# Altium schematic symbol library adafruit.SCHLIB: 884 symbols (part 9 of 15)
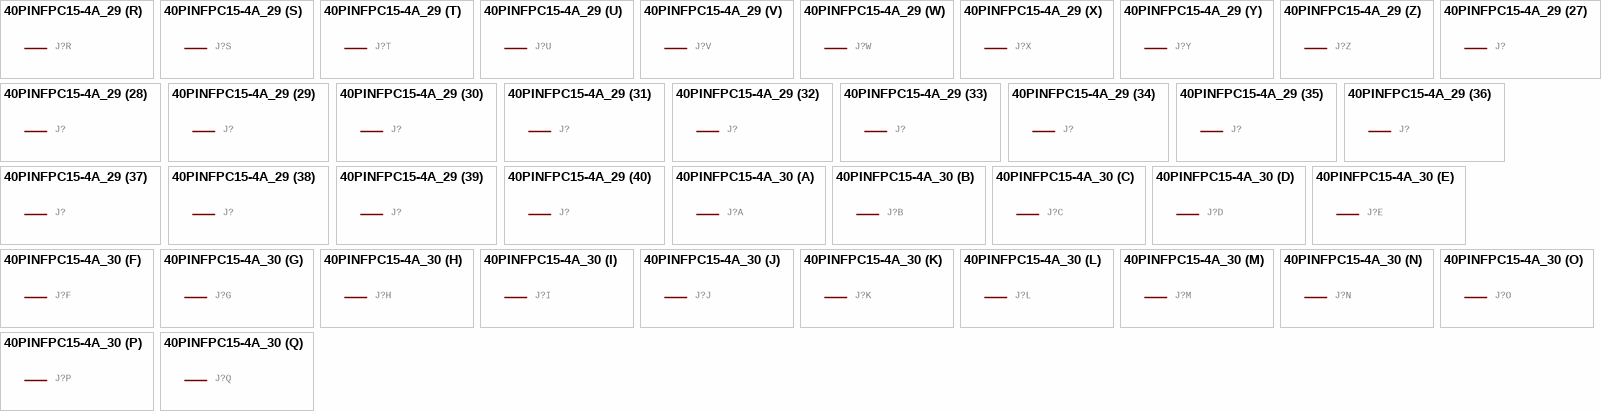
[diagram p196: symbols 40PINFPC15-4A_29 to 40PINFPC15-4A_30]

## 40PINFPC15-4A_29
designator J?, comment OMRON FPC Connector   Source : http://www.omron.com/ecb/products/pdf/fpc.pdf    XF2M-4015-rev is good for connecting up 'PSP' SHARP LQ043 LCDs  (value not drawn)
GateName_1: -1; SymbolName_1: PV; GateName_2: -2; SymbolName_2: P; GateName_3: -3; GateName_4: -4; GateName_5: -5; GateName_6: -6; GateName_7: -7; GateName_8: -8; GateName_9: -9; GateName_10: -10; GateName_11: -11; GateName_12: -12; GateName_13: -13; GateName_14: -14; GateName_15: -15; GateName_16: -16; GateName_17: -17; GateName_18: -18; GateName_19: -19; GateName_20: -20; GateName_21: -21; GateName_22: -22; GateName_23: -23; GateName_24: -24; GateName_25: -25; GateName_26: -26; GateName_27: -27; GateName_28: -28; GateName_29: -29; GateName_30: -30; GateName_31: -31; GateName_32: -32; GateName_33: -33; GateName_34: -34; GateName_35: -35; GateName_36: -36; GateName_37: -37; GateName_38: -38; GateName_39: -39; GateName_40: -40; DeviceName: 15-4A; DeviceSetName: 40PINFPC; SymbolName_3: P; SymbolName_4: P; SymbolName_5: P; SymbolName_6: P; SymbolName_7: P; SymbolName_8: P; SymbolName_9: P; SymbolName_10: P; SymbolName_11: P; SymbolName_12: P; SymbolName_13: P; SymbolName_14: P; SymbolName_15: P; SymbolName_16: P; SymbolName_17: P; SymbolName_18: P; SymbolName_19: P; SymbolName_20: P; SymbolName_21: P; SymbolName_22: P; SymbolName_23: P; SymbolName_24: P; SymbolName_25: P; SymbolName_26: P; SymbolName_27: P; SymbolName_28: P; SymbolName_29: P; SymbolName_30: P; SymbolName_31: P; SymbolName_32: P; SymbolName_33: P; SymbolName_34: P; SymbolName_35: P; SymbolName_36: P; SymbolName_37: P; SymbolName_38: P; SymbolName_39: P; SymbolName_40: P; LibraryName: adafruit; Package: XF2R-4015-4A
footprint XF2R-4015-4A
part A pins: 1 MSV
part B pins: 2 MS
part C pins: 3 MS
part D pins: 4 MS
part E pins: 5 MS
part F pins: 6 MS
part G pins: 7 MS
part H pins: 8 MS
part I pins: 9 MS
part J pins: 10 MS
part K pins: 11 MS
part L pins: 12 MS
part M pins: 13 MS
part N pins: 14 MS
part O pins: 15 MS
part P pins: 16 MS
part Q pins: 17 MS
part R pins: 18 MS
part S pins: 19 MS
part T pins: 20 MS
part U pins: 21 MS
part V pins: 22 MS
part W pins: 23 MS
part X pins: 24 MS
part Y pins: 25 MS
part Z pins: 26 MS
part 27 pins: 27 MS
part 28 pins: 28 MS
part 29 pins: 29 MS
part 30 pins: 30 MS
part 31 pins: 31 MS
part 32 pins: 32 MS
part 33 pins: 33 MS
part 34 pins: 34 MS
part 35 pins: 35 MS
part 36 pins: 36 MS
part 37 pins: 37 MS
part 38 pins: 38 MS
part 39 pins: 39 MS
part 40 pins: 40 MS

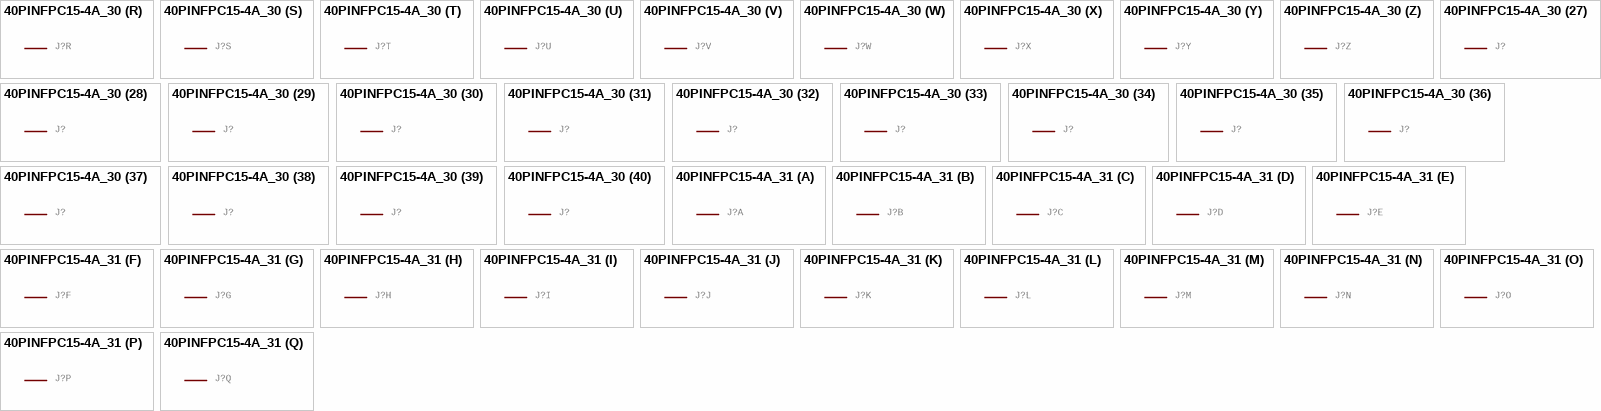
[diagram p151: symbols 40PINFPC15-4A_30 to 40PINFPC15-4A_31]

## 40PINFPC15-4A_30
designator J?, comment OMRON FPC Connector   Source : http://www.omron.com/ecb/products/pdf/fpc.pdf    XF2M-4015-rev is good for connecting up 'PSP' SHARP LQ043 LCDs  (value not drawn)
GateName_1: -1; SymbolName_1: PV; GateName_2: -2; SymbolName_2: P; GateName_3: -3; GateName_4: -4; GateName_5: -5; GateName_6: -6; GateName_7: -7; GateName_8: -8; GateName_9: -9; GateName_10: -10; GateName_11: -11; GateName_12: -12; GateName_13: -13; GateName_14: -14; GateName_15: -15; GateName_16: -16; GateName_17: -17; GateName_18: -18; GateName_19: -19; GateName_20: -20; GateName_21: -21; GateName_22: -22; GateName_23: -23; GateName_24: -24; GateName_25: -25; GateName_26: -26; GateName_27: -27; GateName_28: -28; GateName_29: -29; GateName_30: -30; GateName_31: -31; GateName_32: -32; GateName_33: -33; GateName_34: -34; GateName_35: -35; GateName_36: -36; GateName_37: -37; GateName_38: -38; GateName_39: -39; GateName_40: -40; DeviceName: 15-4A; DeviceSetName: 40PINFPC; SymbolName_3: P; SymbolName_4: P; SymbolName_5: P; SymbolName_6: P; SymbolName_7: P; SymbolName_8: P; SymbolName_9: P; SymbolName_10: P; SymbolName_11: P; SymbolName_12: P; SymbolName_13: P; SymbolName_14: P; SymbolName_15: P; SymbolName_16: P; SymbolName_17: P; SymbolName_18: P; SymbolName_19: P; SymbolName_20: P; SymbolName_21: P; SymbolName_22: P; SymbolName_23: P; SymbolName_24: P; SymbolName_25: P; SymbolName_26: P; SymbolName_27: P; SymbolName_28: P; SymbolName_29: P; SymbolName_30: P; SymbolName_31: P; SymbolName_32: P; SymbolName_33: P; SymbolName_34: P; SymbolName_35: P; SymbolName_36: P; SymbolName_37: P; SymbolName_38: P; SymbolName_39: P; SymbolName_40: P; LibraryName: adafruit; Package: XF2R-4015-4A
footprint XF2R-4015-4A
part A pins: 1 MSV
part B pins: 2 MS
part C pins: 3 MS
part D pins: 4 MS
part E pins: 5 MS
part F pins: 6 MS
part G pins: 7 MS
part H pins: 8 MS
part I pins: 9 MS
part J pins: 10 MS
part K pins: 11 MS
part L pins: 12 MS
part M pins: 13 MS
part N pins: 14 MS
part O pins: 15 MS
part P pins: 16 MS
part Q pins: 17 MS
part R pins: 18 MS
part S pins: 19 MS
part T pins: 20 MS
part U pins: 21 MS
part V pins: 22 MS
part W pins: 23 MS
part X pins: 24 MS
part Y pins: 25 MS
part Z pins: 26 MS
part 27 pins: 27 MS
part 28 pins: 28 MS
part 29 pins: 29 MS
part 30 pins: 30 MS
part 31 pins: 31 MS
part 32 pins: 32 MS
part 33 pins: 33 MS
part 34 pins: 34 MS
part 35 pins: 35 MS
part 36 pins: 36 MS
part 37 pins: 37 MS
part 38 pins: 38 MS
part 39 pins: 39 MS
part 40 pins: 40 MS

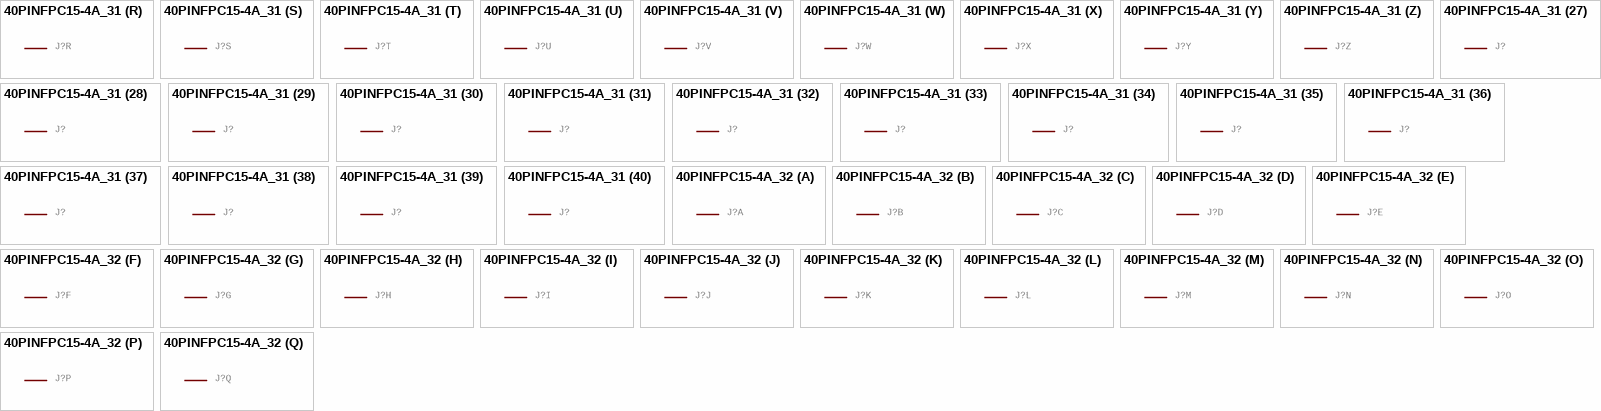
[diagram p152: symbols 40PINFPC15-4A_31 to 40PINFPC15-4A_32]

## 40PINFPC15-4A_31
designator J?, comment OMRON FPC Connector   Source : http://www.omron.com/ecb/products/pdf/fpc.pdf    XF2M-4015-rev is good for connecting up 'PSP' SHARP LQ043 LCDs  (value not drawn)
GateName_1: -1; SymbolName_1: PV; GateName_2: -2; SymbolName_2: P; GateName_3: -3; GateName_4: -4; GateName_5: -5; GateName_6: -6; GateName_7: -7; GateName_8: -8; GateName_9: -9; GateName_10: -10; GateName_11: -11; GateName_12: -12; GateName_13: -13; GateName_14: -14; GateName_15: -15; GateName_16: -16; GateName_17: -17; GateName_18: -18; GateName_19: -19; GateName_20: -20; GateName_21: -21; GateName_22: -22; GateName_23: -23; GateName_24: -24; GateName_25: -25; GateName_26: -26; GateName_27: -27; GateName_28: -28; GateName_29: -29; GateName_30: -30; GateName_31: -31; GateName_32: -32; GateName_33: -33; GateName_34: -34; GateName_35: -35; GateName_36: -36; GateName_37: -37; GateName_38: -38; GateName_39: -39; GateName_40: -40; DeviceName: 15-4A; DeviceSetName: 40PINFPC; SymbolName_3: P; SymbolName_4: P; SymbolName_5: P; SymbolName_6: P; SymbolName_7: P; SymbolName_8: P; SymbolName_9: P; SymbolName_10: P; SymbolName_11: P; SymbolName_12: P; SymbolName_13: P; SymbolName_14: P; SymbolName_15: P; SymbolName_16: P; SymbolName_17: P; SymbolName_18: P; SymbolName_19: P; SymbolName_20: P; SymbolName_21: P; SymbolName_22: P; SymbolName_23: P; SymbolName_24: P; SymbolName_25: P; SymbolName_26: P; SymbolName_27: P; SymbolName_28: P; SymbolName_29: P; SymbolName_30: P; SymbolName_31: P; SymbolName_32: P; SymbolName_33: P; SymbolName_34: P; SymbolName_35: P; SymbolName_36: P; SymbolName_37: P; SymbolName_38: P; SymbolName_39: P; SymbolName_40: P; LibraryName: adafruit; Package: XF2R-4015-4A
footprint XF2R-4015-4A
part A pins: 1 MSV
part B pins: 2 MS
part C pins: 3 MS
part D pins: 4 MS
part E pins: 5 MS
part F pins: 6 MS
part G pins: 7 MS
part H pins: 8 MS
part I pins: 9 MS
part J pins: 10 MS
part K pins: 11 MS
part L pins: 12 MS
part M pins: 13 MS
part N pins: 14 MS
part O pins: 15 MS
part P pins: 16 MS
part Q pins: 17 MS
part R pins: 18 MS
part S pins: 19 MS
part T pins: 20 MS
part U pins: 21 MS
part V pins: 22 MS
part W pins: 23 MS
part X pins: 24 MS
part Y pins: 25 MS
part Z pins: 26 MS
part 27 pins: 27 MS
part 28 pins: 28 MS
part 29 pins: 29 MS
part 30 pins: 30 MS
part 31 pins: 31 MS
part 32 pins: 32 MS
part 33 pins: 33 MS
part 34 pins: 34 MS
part 35 pins: 35 MS
part 36 pins: 36 MS
part 37 pins: 37 MS
part 38 pins: 38 MS
part 39 pins: 39 MS
part 40 pins: 40 MS

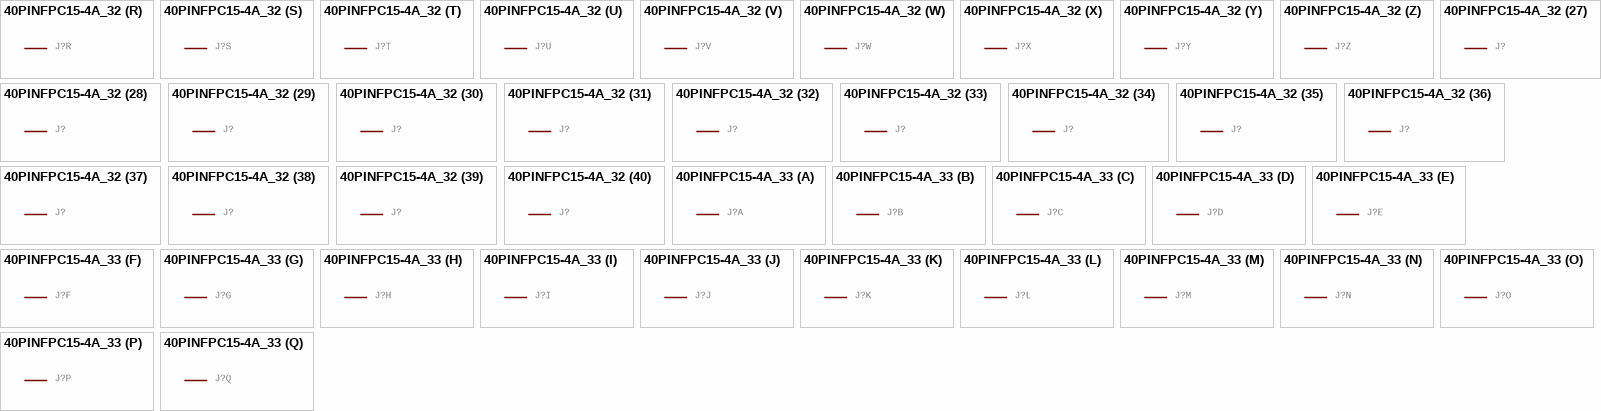
[diagram p153: symbols 40PINFPC15-4A_32 to 40PINFPC15-4A_33]

## 40PINFPC15-4A_32
designator J?, comment OMRON FPC Connector   Source : http://www.omron.com/ecb/products/pdf/fpc.pdf    XF2M-4015-rev is good for connecting up 'PSP' SHARP LQ043 LCDs  (value not drawn)
GateName_1: -1; SymbolName_1: PV; GateName_2: -2; SymbolName_2: P; GateName_3: -3; GateName_4: -4; GateName_5: -5; GateName_6: -6; GateName_7: -7; GateName_8: -8; GateName_9: -9; GateName_10: -10; GateName_11: -11; GateName_12: -12; GateName_13: -13; GateName_14: -14; GateName_15: -15; GateName_16: -16; GateName_17: -17; GateName_18: -18; GateName_19: -19; GateName_20: -20; GateName_21: -21; GateName_22: -22; GateName_23: -23; GateName_24: -24; GateName_25: -25; GateName_26: -26; GateName_27: -27; GateName_28: -28; GateName_29: -29; GateName_30: -30; GateName_31: -31; GateName_32: -32; GateName_33: -33; GateName_34: -34; GateName_35: -35; GateName_36: -36; GateName_37: -37; GateName_38: -38; GateName_39: -39; GateName_40: -40; DeviceName: 15-4A; DeviceSetName: 40PINFPC; SymbolName_3: P; SymbolName_4: P; SymbolName_5: P; SymbolName_6: P; SymbolName_7: P; SymbolName_8: P; SymbolName_9: P; SymbolName_10: P; SymbolName_11: P; SymbolName_12: P; SymbolName_13: P; SymbolName_14: P; SymbolName_15: P; SymbolName_16: P; SymbolName_17: P; SymbolName_18: P; SymbolName_19: P; SymbolName_20: P; SymbolName_21: P; SymbolName_22: P; SymbolName_23: P; SymbolName_24: P; SymbolName_25: P; SymbolName_26: P; SymbolName_27: P; SymbolName_28: P; SymbolName_29: P; SymbolName_30: P; SymbolName_31: P; SymbolName_32: P; SymbolName_33: P; SymbolName_34: P; SymbolName_35: P; SymbolName_36: P; SymbolName_37: P; SymbolName_38: P; SymbolName_39: P; SymbolName_40: P; LibraryName: adafruit; Package: XF2R-4015-4A
footprint XF2R-4015-4A
part A pins: 1 MSV
part B pins: 2 MS
part C pins: 3 MS
part D pins: 4 MS
part E pins: 5 MS
part F pins: 6 MS
part G pins: 7 MS
part H pins: 8 MS
part I pins: 9 MS
part J pins: 10 MS
part K pins: 11 MS
part L pins: 12 MS
part M pins: 13 MS
part N pins: 14 MS
part O pins: 15 MS
part P pins: 16 MS
part Q pins: 17 MS
part R pins: 18 MS
part S pins: 19 MS
part T pins: 20 MS
part U pins: 21 MS
part V pins: 22 MS
part W pins: 23 MS
part X pins: 24 MS
part Y pins: 25 MS
part Z pins: 26 MS
part 27 pins: 27 MS
part 28 pins: 28 MS
part 29 pins: 29 MS
part 30 pins: 30 MS
part 31 pins: 31 MS
part 32 pins: 32 MS
part 33 pins: 33 MS
part 34 pins: 34 MS
part 35 pins: 35 MS
part 36 pins: 36 MS
part 37 pins: 37 MS
part 38 pins: 38 MS
part 39 pins: 39 MS
part 40 pins: 40 MS

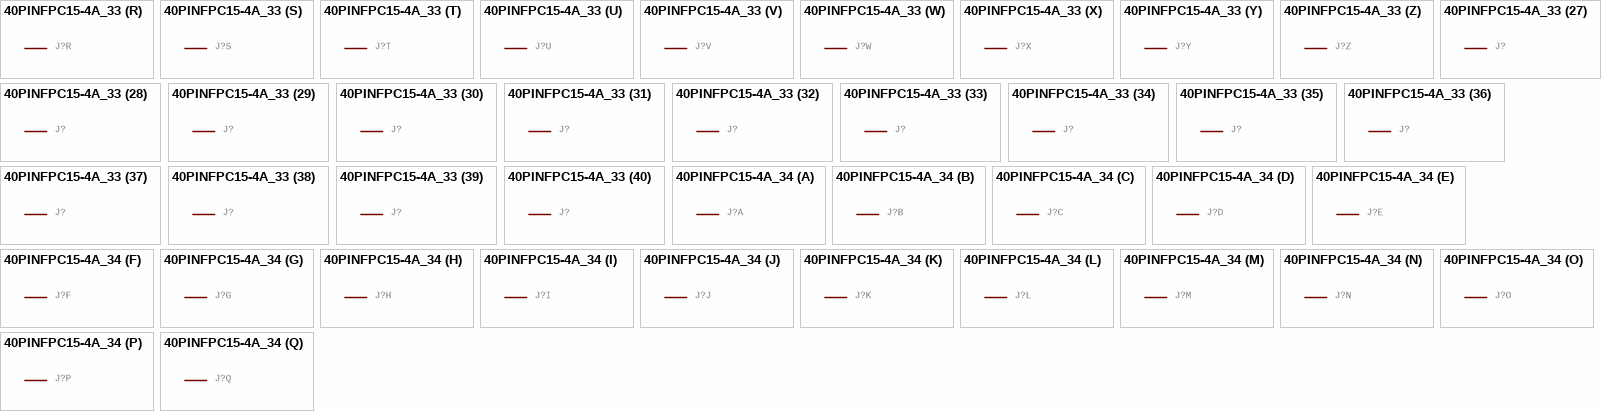
[diagram p154: symbols 40PINFPC15-4A_33 to 40PINFPC15-4A_34]

## 40PINFPC15-4A_33
designator J?, comment OMRON FPC Connector   Source : http://www.omron.com/ecb/products/pdf/fpc.pdf    XF2M-4015-rev is good for connecting up 'PSP' SHARP LQ043 LCDs  (value not drawn)
GateName_1: -1; SymbolName_1: PV; GateName_2: -2; SymbolName_2: P; GateName_3: -3; GateName_4: -4; GateName_5: -5; GateName_6: -6; GateName_7: -7; GateName_8: -8; GateName_9: -9; GateName_10: -10; GateName_11: -11; GateName_12: -12; GateName_13: -13; GateName_14: -14; GateName_15: -15; GateName_16: -16; GateName_17: -17; GateName_18: -18; GateName_19: -19; GateName_20: -20; GateName_21: -21; GateName_22: -22; GateName_23: -23; GateName_24: -24; GateName_25: -25; GateName_26: -26; GateName_27: -27; GateName_28: -28; GateName_29: -29; GateName_30: -30; GateName_31: -31; GateName_32: -32; GateName_33: -33; GateName_34: -34; GateName_35: -35; GateName_36: -36; GateName_37: -37; GateName_38: -38; GateName_39: -39; GateName_40: -40; DeviceName: 15-4A; DeviceSetName: 40PINFPC; SymbolName_3: P; SymbolName_4: P; SymbolName_5: P; SymbolName_6: P; SymbolName_7: P; SymbolName_8: P; SymbolName_9: P; SymbolName_10: P; SymbolName_11: P; SymbolName_12: P; SymbolName_13: P; SymbolName_14: P; SymbolName_15: P; SymbolName_16: P; SymbolName_17: P; SymbolName_18: P; SymbolName_19: P; SymbolName_20: P; SymbolName_21: P; SymbolName_22: P; SymbolName_23: P; SymbolName_24: P; SymbolName_25: P; SymbolName_26: P; SymbolName_27: P; SymbolName_28: P; SymbolName_29: P; SymbolName_30: P; SymbolName_31: P; SymbolName_32: P; SymbolName_33: P; SymbolName_34: P; SymbolName_35: P; SymbolName_36: P; SymbolName_37: P; SymbolName_38: P; SymbolName_39: P; SymbolName_40: P; LibraryName: adafruit; Package: XF2R-4015-4A
footprint XF2R-4015-4A
part A pins: 1 MSV
part B pins: 2 MS
part C pins: 3 MS
part D pins: 4 MS
part E pins: 5 MS
part F pins: 6 MS
part G pins: 7 MS
part H pins: 8 MS
part I pins: 9 MS
part J pins: 10 MS
part K pins: 11 MS
part L pins: 12 MS
part M pins: 13 MS
part N pins: 14 MS
part O pins: 15 MS
part P pins: 16 MS
part Q pins: 17 MS
part R pins: 18 MS
part S pins: 19 MS
part T pins: 20 MS
part U pins: 21 MS
part V pins: 22 MS
part W pins: 23 MS
part X pins: 24 MS
part Y pins: 25 MS
part Z pins: 26 MS
part 27 pins: 27 MS
part 28 pins: 28 MS
part 29 pins: 29 MS
part 30 pins: 30 MS
part 31 pins: 31 MS
part 32 pins: 32 MS
part 33 pins: 33 MS
part 34 pins: 34 MS
part 35 pins: 35 MS
part 36 pins: 36 MS
part 37 pins: 37 MS
part 38 pins: 38 MS
part 39 pins: 39 MS
part 40 pins: 40 MS

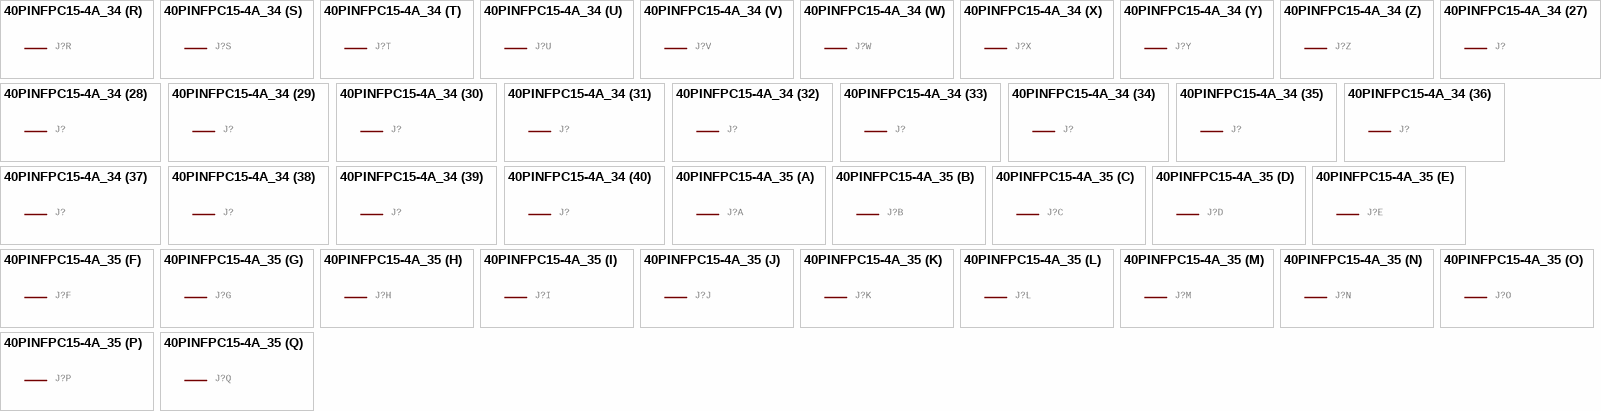
[diagram p155: symbols 40PINFPC15-4A_34 to 40PINFPC15-4A_35]

## 40PINFPC15-4A_34
designator J?, comment OMRON FPC Connector   Source : http://www.omron.com/ecb/products/pdf/fpc.pdf    XF2M-4015-rev is good for connecting up 'PSP' SHARP LQ043 LCDs  (value not drawn)
GateName_1: -1; SymbolName_1: PV; GateName_2: -2; SymbolName_2: P; GateName_3: -3; GateName_4: -4; GateName_5: -5; GateName_6: -6; GateName_7: -7; GateName_8: -8; GateName_9: -9; GateName_10: -10; GateName_11: -11; GateName_12: -12; GateName_13: -13; GateName_14: -14; GateName_15: -15; GateName_16: -16; GateName_17: -17; GateName_18: -18; GateName_19: -19; GateName_20: -20; GateName_21: -21; GateName_22: -22; GateName_23: -23; GateName_24: -24; GateName_25: -25; GateName_26: -26; GateName_27: -27; GateName_28: -28; GateName_29: -29; GateName_30: -30; GateName_31: -31; GateName_32: -32; GateName_33: -33; GateName_34: -34; GateName_35: -35; GateName_36: -36; GateName_37: -37; GateName_38: -38; GateName_39: -39; GateName_40: -40; DeviceName: 15-4A; DeviceSetName: 40PINFPC; SymbolName_3: P; SymbolName_4: P; SymbolName_5: P; SymbolName_6: P; SymbolName_7: P; SymbolName_8: P; SymbolName_9: P; SymbolName_10: P; SymbolName_11: P; SymbolName_12: P; SymbolName_13: P; SymbolName_14: P; SymbolName_15: P; SymbolName_16: P; SymbolName_17: P; SymbolName_18: P; SymbolName_19: P; SymbolName_20: P; SymbolName_21: P; SymbolName_22: P; SymbolName_23: P; SymbolName_24: P; SymbolName_25: P; SymbolName_26: P; SymbolName_27: P; SymbolName_28: P; SymbolName_29: P; SymbolName_30: P; SymbolName_31: P; SymbolName_32: P; SymbolName_33: P; SymbolName_34: P; SymbolName_35: P; SymbolName_36: P; SymbolName_37: P; SymbolName_38: P; SymbolName_39: P; SymbolName_40: P; LibraryName: adafruit; Package: XF2R-4015-4A
footprint XF2R-4015-4A
part A pins: 1 MSV
part B pins: 2 MS
part C pins: 3 MS
part D pins: 4 MS
part E pins: 5 MS
part F pins: 6 MS
part G pins: 7 MS
part H pins: 8 MS
part I pins: 9 MS
part J pins: 10 MS
part K pins: 11 MS
part L pins: 12 MS
part M pins: 13 MS
part N pins: 14 MS
part O pins: 15 MS
part P pins: 16 MS
part Q pins: 17 MS
part R pins: 18 MS
part S pins: 19 MS
part T pins: 20 MS
part U pins: 21 MS
part V pins: 22 MS
part W pins: 23 MS
part X pins: 24 MS
part Y pins: 25 MS
part Z pins: 26 MS
part 27 pins: 27 MS
part 28 pins: 28 MS
part 29 pins: 29 MS
part 30 pins: 30 MS
part 31 pins: 31 MS
part 32 pins: 32 MS
part 33 pins: 33 MS
part 34 pins: 34 MS
part 35 pins: 35 MS
part 36 pins: 36 MS
part 37 pins: 37 MS
part 38 pins: 38 MS
part 39 pins: 39 MS
part 40 pins: 40 MS

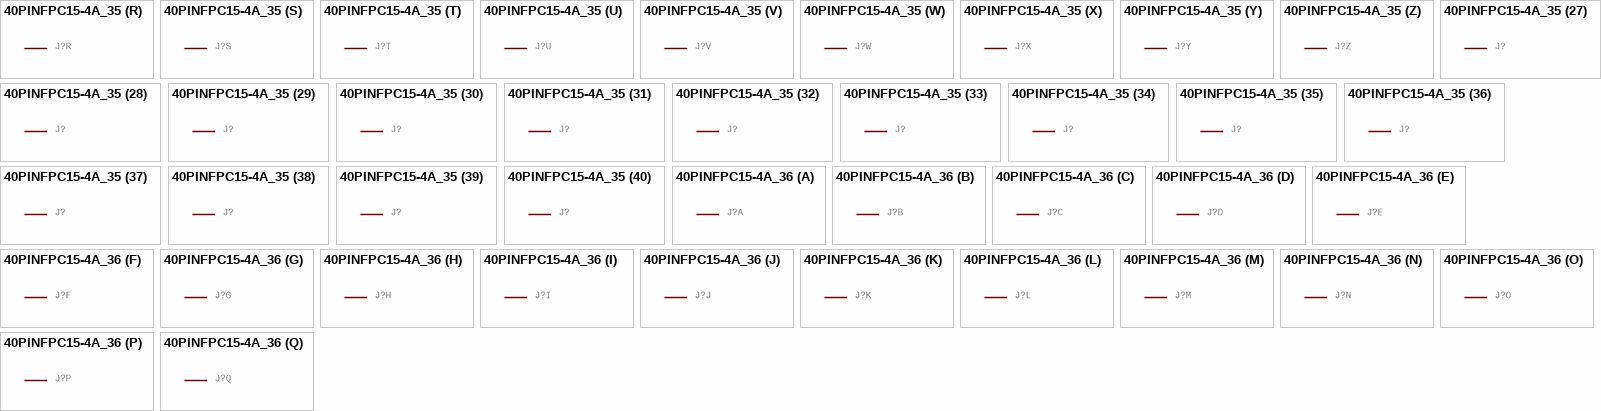
[diagram p156: symbols 40PINFPC15-4A_35 to 40PINFPC15-4A_36]

## 40PINFPC15-4A_35
designator J?, comment OMRON FPC Connector   Source : http://www.omron.com/ecb/products/pdf/fpc.pdf    XF2M-4015-rev is good for connecting up 'PSP' SHARP LQ043 LCDs  (value not drawn)
GateName_1: -1; SymbolName_1: PV; GateName_2: -2; SymbolName_2: P; GateName_3: -3; GateName_4: -4; GateName_5: -5; GateName_6: -6; GateName_7: -7; GateName_8: -8; GateName_9: -9; GateName_10: -10; GateName_11: -11; GateName_12: -12; GateName_13: -13; GateName_14: -14; GateName_15: -15; GateName_16: -16; GateName_17: -17; GateName_18: -18; GateName_19: -19; GateName_20: -20; GateName_21: -21; GateName_22: -22; GateName_23: -23; GateName_24: -24; GateName_25: -25; GateName_26: -26; GateName_27: -27; GateName_28: -28; GateName_29: -29; GateName_30: -30; GateName_31: -31; GateName_32: -32; GateName_33: -33; GateName_34: -34; GateName_35: -35; GateName_36: -36; GateName_37: -37; GateName_38: -38; GateName_39: -39; GateName_40: -40; DeviceName: 15-4A; DeviceSetName: 40PINFPC; SymbolName_3: P; SymbolName_4: P; SymbolName_5: P; SymbolName_6: P; SymbolName_7: P; SymbolName_8: P; SymbolName_9: P; SymbolName_10: P; SymbolName_11: P; SymbolName_12: P; SymbolName_13: P; SymbolName_14: P; SymbolName_15: P; SymbolName_16: P; SymbolName_17: P; SymbolName_18: P; SymbolName_19: P; SymbolName_20: P; SymbolName_21: P; SymbolName_22: P; SymbolName_23: P; SymbolName_24: P; SymbolName_25: P; SymbolName_26: P; SymbolName_27: P; SymbolName_28: P; SymbolName_29: P; SymbolName_30: P; SymbolName_31: P; SymbolName_32: P; SymbolName_33: P; SymbolName_34: P; SymbolName_35: P; SymbolName_36: P; SymbolName_37: P; SymbolName_38: P; SymbolName_39: P; SymbolName_40: P; LibraryName: adafruit; Package: XF2R-4015-4A
footprint XF2R-4015-4A
part A pins: 1 MSV
part B pins: 2 MS
part C pins: 3 MS
part D pins: 4 MS
part E pins: 5 MS
part F pins: 6 MS
part G pins: 7 MS
part H pins: 8 MS
part I pins: 9 MS
part J pins: 10 MS
part K pins: 11 MS
part L pins: 12 MS
part M pins: 13 MS
part N pins: 14 MS
part O pins: 15 MS
part P pins: 16 MS
part Q pins: 17 MS
part R pins: 18 MS
part S pins: 19 MS
part T pins: 20 MS
part U pins: 21 MS
part V pins: 22 MS
part W pins: 23 MS
part X pins: 24 MS
part Y pins: 25 MS
part Z pins: 26 MS
part 27 pins: 27 MS
part 28 pins: 28 MS
part 29 pins: 29 MS
part 30 pins: 30 MS
part 31 pins: 31 MS
part 32 pins: 32 MS
part 33 pins: 33 MS
part 34 pins: 34 MS
part 35 pins: 35 MS
part 36 pins: 36 MS
part 37 pins: 37 MS
part 38 pins: 38 MS
part 39 pins: 39 MS
part 40 pins: 40 MS

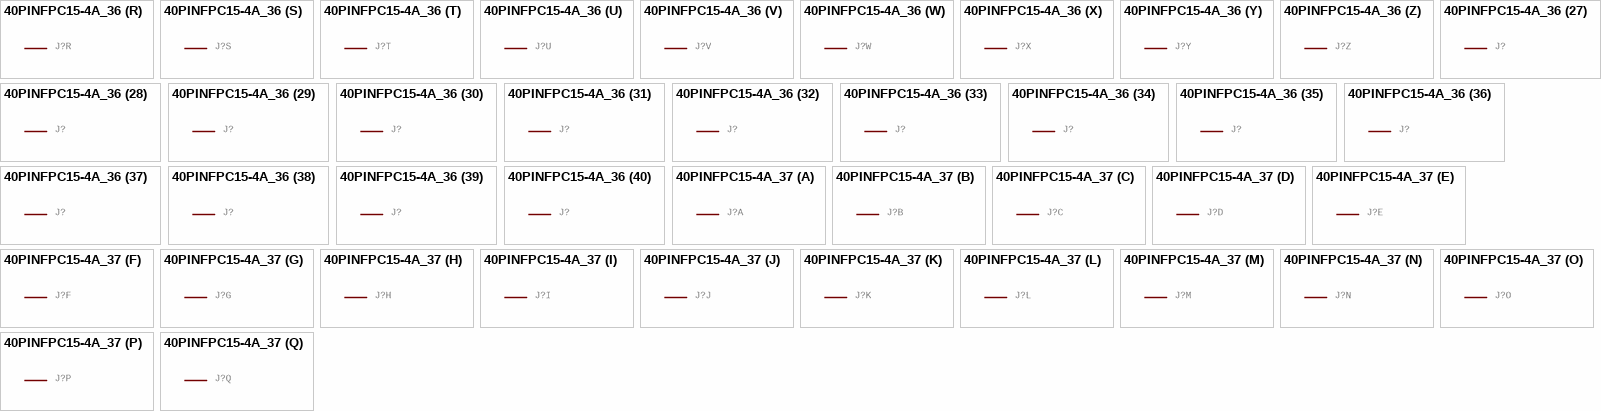
[diagram p157: symbols 40PINFPC15-4A_36 to 40PINFPC15-4A_37]

## 40PINFPC15-4A_36
designator J?, comment OMRON FPC Connector   Source : http://www.omron.com/ecb/products/pdf/fpc.pdf    XF2M-4015-rev is good for connecting up 'PSP' SHARP LQ043 LCDs  (value not drawn)
GateName_1: -1; SymbolName_1: PV; GateName_2: -2; SymbolName_2: P; GateName_3: -3; GateName_4: -4; GateName_5: -5; GateName_6: -6; GateName_7: -7; GateName_8: -8; GateName_9: -9; GateName_10: -10; GateName_11: -11; GateName_12: -12; GateName_13: -13; GateName_14: -14; GateName_15: -15; GateName_16: -16; GateName_17: -17; GateName_18: -18; GateName_19: -19; GateName_20: -20; GateName_21: -21; GateName_22: -22; GateName_23: -23; GateName_24: -24; GateName_25: -25; GateName_26: -26; GateName_27: -27; GateName_28: -28; GateName_29: -29; GateName_30: -30; GateName_31: -31; GateName_32: -32; GateName_33: -33; GateName_34: -34; GateName_35: -35; GateName_36: -36; GateName_37: -37; GateName_38: -38; GateName_39: -39; GateName_40: -40; DeviceName: 15-4A; DeviceSetName: 40PINFPC; SymbolName_3: P; SymbolName_4: P; SymbolName_5: P; SymbolName_6: P; SymbolName_7: P; SymbolName_8: P; SymbolName_9: P; SymbolName_10: P; SymbolName_11: P; SymbolName_12: P; SymbolName_13: P; SymbolName_14: P; SymbolName_15: P; SymbolName_16: P; SymbolName_17: P; SymbolName_18: P; SymbolName_19: P; SymbolName_20: P; SymbolName_21: P; SymbolName_22: P; SymbolName_23: P; SymbolName_24: P; SymbolName_25: P; SymbolName_26: P; SymbolName_27: P; SymbolName_28: P; SymbolName_29: P; SymbolName_30: P; SymbolName_31: P; SymbolName_32: P; SymbolName_33: P; SymbolName_34: P; SymbolName_35: P; SymbolName_36: P; SymbolName_37: P; SymbolName_38: P; SymbolName_39: P; SymbolName_40: P; LibraryName: adafruit; Package: XF2R-4015-4A
footprint XF2R-4015-4A
part A pins: 1 MSV
part B pins: 2 MS
part C pins: 3 MS
part D pins: 4 MS
part E pins: 5 MS
part F pins: 6 MS
part G pins: 7 MS
part H pins: 8 MS
part I pins: 9 MS
part J pins: 10 MS
part K pins: 11 MS
part L pins: 12 MS
part M pins: 13 MS
part N pins: 14 MS
part O pins: 15 MS
part P pins: 16 MS
part Q pins: 17 MS
part R pins: 18 MS
part S pins: 19 MS
part T pins: 20 MS
part U pins: 21 MS
part V pins: 22 MS
part W pins: 23 MS
part X pins: 24 MS
part Y pins: 25 MS
part Z pins: 26 MS
part 27 pins: 27 MS
part 28 pins: 28 MS
part 29 pins: 29 MS
part 30 pins: 30 MS
part 31 pins: 31 MS
part 32 pins: 32 MS
part 33 pins: 33 MS
part 34 pins: 34 MS
part 35 pins: 35 MS
part 36 pins: 36 MS
part 37 pins: 37 MS
part 38 pins: 38 MS
part 39 pins: 39 MS
part 40 pins: 40 MS

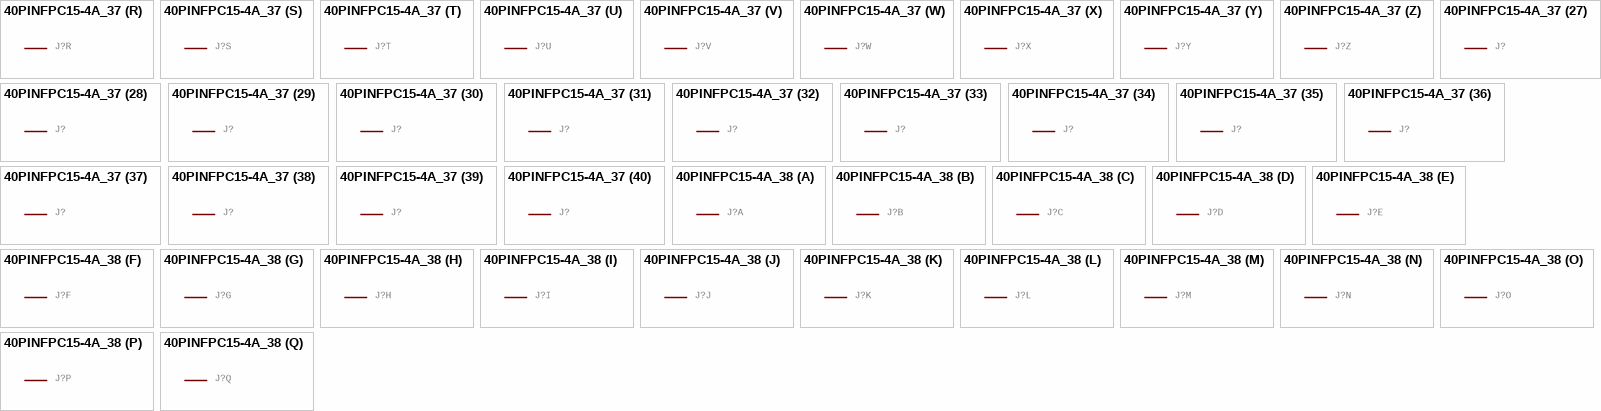
[diagram p158: symbols 40PINFPC15-4A_37 to 40PINFPC15-4A_38]

## 40PINFPC15-4A_37
designator J?, comment OMRON FPC Connector   Source : http://www.omron.com/ecb/products/pdf/fpc.pdf    XF2M-4015-rev is good for connecting up 'PSP' SHARP LQ043 LCDs  (value not drawn)
GateName_1: -1; SymbolName_1: PV; GateName_2: -2; SymbolName_2: P; GateName_3: -3; GateName_4: -4; GateName_5: -5; GateName_6: -6; GateName_7: -7; GateName_8: -8; GateName_9: -9; GateName_10: -10; GateName_11: -11; GateName_12: -12; GateName_13: -13; GateName_14: -14; GateName_15: -15; GateName_16: -16; GateName_17: -17; GateName_18: -18; GateName_19: -19; GateName_20: -20; GateName_21: -21; GateName_22: -22; GateName_23: -23; GateName_24: -24; GateName_25: -25; GateName_26: -26; GateName_27: -27; GateName_28: -28; GateName_29: -29; GateName_30: -30; GateName_31: -31; GateName_32: -32; GateName_33: -33; GateName_34: -34; GateName_35: -35; GateName_36: -36; GateName_37: -37; GateName_38: -38; GateName_39: -39; GateName_40: -40; DeviceName: 15-4A; DeviceSetName: 40PINFPC; SymbolName_3: P; SymbolName_4: P; SymbolName_5: P; SymbolName_6: P; SymbolName_7: P; SymbolName_8: P; SymbolName_9: P; SymbolName_10: P; SymbolName_11: P; SymbolName_12: P; SymbolName_13: P; SymbolName_14: P; SymbolName_15: P; SymbolName_16: P; SymbolName_17: P; SymbolName_18: P; SymbolName_19: P; SymbolName_20: P; SymbolName_21: P; SymbolName_22: P; SymbolName_23: P; SymbolName_24: P; SymbolName_25: P; SymbolName_26: P; SymbolName_27: P; SymbolName_28: P; SymbolName_29: P; SymbolName_30: P; SymbolName_31: P; SymbolName_32: P; SymbolName_33: P; SymbolName_34: P; SymbolName_35: P; SymbolName_36: P; SymbolName_37: P; SymbolName_38: P; SymbolName_39: P; SymbolName_40: P; LibraryName: adafruit; Package: XF2R-4015-4A
footprint XF2R-4015-4A
part A pins: 1 MSV
part B pins: 2 MS
part C pins: 3 MS
part D pins: 4 MS
part E pins: 5 MS
part F pins: 6 MS
part G pins: 7 MS
part H pins: 8 MS
part I pins: 9 MS
part J pins: 10 MS
part K pins: 11 MS
part L pins: 12 MS
part M pins: 13 MS
part N pins: 14 MS
part O pins: 15 MS
part P pins: 16 MS
part Q pins: 17 MS
part R pins: 18 MS
part S pins: 19 MS
part T pins: 20 MS
part U pins: 21 MS
part V pins: 22 MS
part W pins: 23 MS
part X pins: 24 MS
part Y pins: 25 MS
part Z pins: 26 MS
part 27 pins: 27 MS
part 28 pins: 28 MS
part 29 pins: 29 MS
part 30 pins: 30 MS
part 31 pins: 31 MS
part 32 pins: 32 MS
part 33 pins: 33 MS
part 34 pins: 34 MS
part 35 pins: 35 MS
part 36 pins: 36 MS
part 37 pins: 37 MS
part 38 pins: 38 MS
part 39 pins: 39 MS
part 40 pins: 40 MS

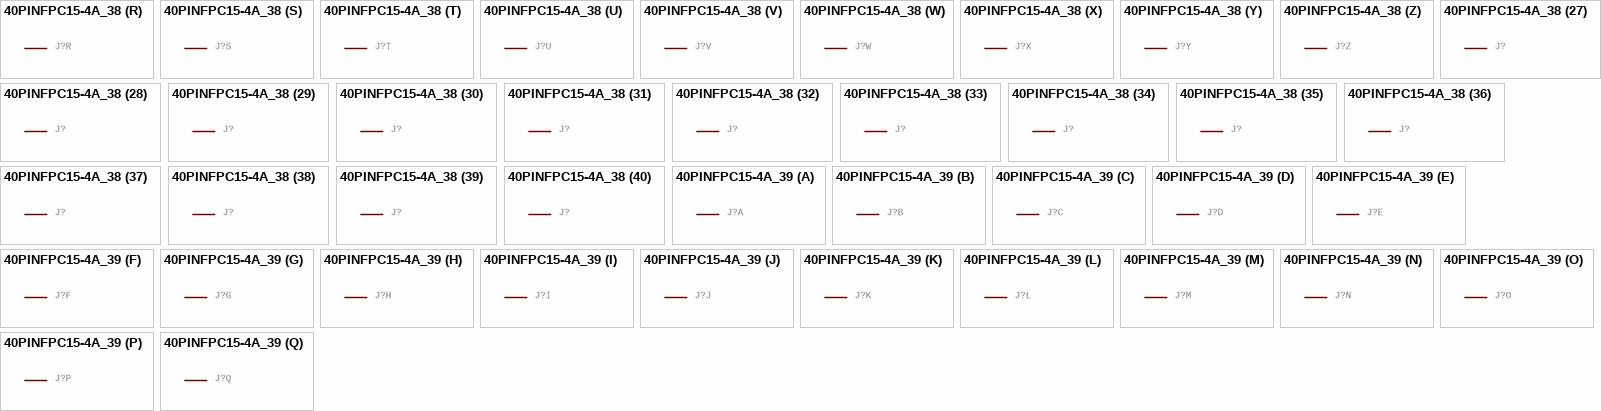
[diagram p159: symbols 40PINFPC15-4A_38 to 40PINFPC15-4A_39]

## 40PINFPC15-4A_38
designator J?, comment OMRON FPC Connector   Source : http://www.omron.com/ecb/products/pdf/fpc.pdf    XF2M-4015-rev is good for connecting up 'PSP' SHARP LQ043 LCDs  (value not drawn)
GateName_1: -1; SymbolName_1: PV; GateName_2: -2; SymbolName_2: P; GateName_3: -3; GateName_4: -4; GateName_5: -5; GateName_6: -6; GateName_7: -7; GateName_8: -8; GateName_9: -9; GateName_10: -10; GateName_11: -11; GateName_12: -12; GateName_13: -13; GateName_14: -14; GateName_15: -15; GateName_16: -16; GateName_17: -17; GateName_18: -18; GateName_19: -19; GateName_20: -20; GateName_21: -21; GateName_22: -22; GateName_23: -23; GateName_24: -24; GateName_25: -25; GateName_26: -26; GateName_27: -27; GateName_28: -28; GateName_29: -29; GateName_30: -30; GateName_31: -31; GateName_32: -32; GateName_33: -33; GateName_34: -34; GateName_35: -35; GateName_36: -36; GateName_37: -37; GateName_38: -38; GateName_39: -39; GateName_40: -40; DeviceName: 15-4A; DeviceSetName: 40PINFPC; SymbolName_3: P; SymbolName_4: P; SymbolName_5: P; SymbolName_6: P; SymbolName_7: P; SymbolName_8: P; SymbolName_9: P; SymbolName_10: P; SymbolName_11: P; SymbolName_12: P; SymbolName_13: P; SymbolName_14: P; SymbolName_15: P; SymbolName_16: P; SymbolName_17: P; SymbolName_18: P; SymbolName_19: P; SymbolName_20: P; SymbolName_21: P; SymbolName_22: P; SymbolName_23: P; SymbolName_24: P; SymbolName_25: P; SymbolName_26: P; SymbolName_27: P; SymbolName_28: P; SymbolName_29: P; SymbolName_30: P; SymbolName_31: P; SymbolName_32: P; SymbolName_33: P; SymbolName_34: P; SymbolName_35: P; SymbolName_36: P; SymbolName_37: P; SymbolName_38: P; SymbolName_39: P; SymbolName_40: P; LibraryName: adafruit; Package: XF2R-4015-4A
footprint XF2R-4015-4A
part A pins: 1 MSV
part B pins: 2 MS
part C pins: 3 MS
part D pins: 4 MS
part E pins: 5 MS
part F pins: 6 MS
part G pins: 7 MS
part H pins: 8 MS
part I pins: 9 MS
part J pins: 10 MS
part K pins: 11 MS
part L pins: 12 MS
part M pins: 13 MS
part N pins: 14 MS
part O pins: 15 MS
part P pins: 16 MS
part Q pins: 17 MS
part R pins: 18 MS
part S pins: 19 MS
part T pins: 20 MS
part U pins: 21 MS
part V pins: 22 MS
part W pins: 23 MS
part X pins: 24 MS
part Y pins: 25 MS
part Z pins: 26 MS
part 27 pins: 27 MS
part 28 pins: 28 MS
part 29 pins: 29 MS
part 30 pins: 30 MS
part 31 pins: 31 MS
part 32 pins: 32 MS
part 33 pins: 33 MS
part 34 pins: 34 MS
part 35 pins: 35 MS
part 36 pins: 36 MS
part 37 pins: 37 MS
part 38 pins: 38 MS
part 39 pins: 39 MS
part 40 pins: 40 MS

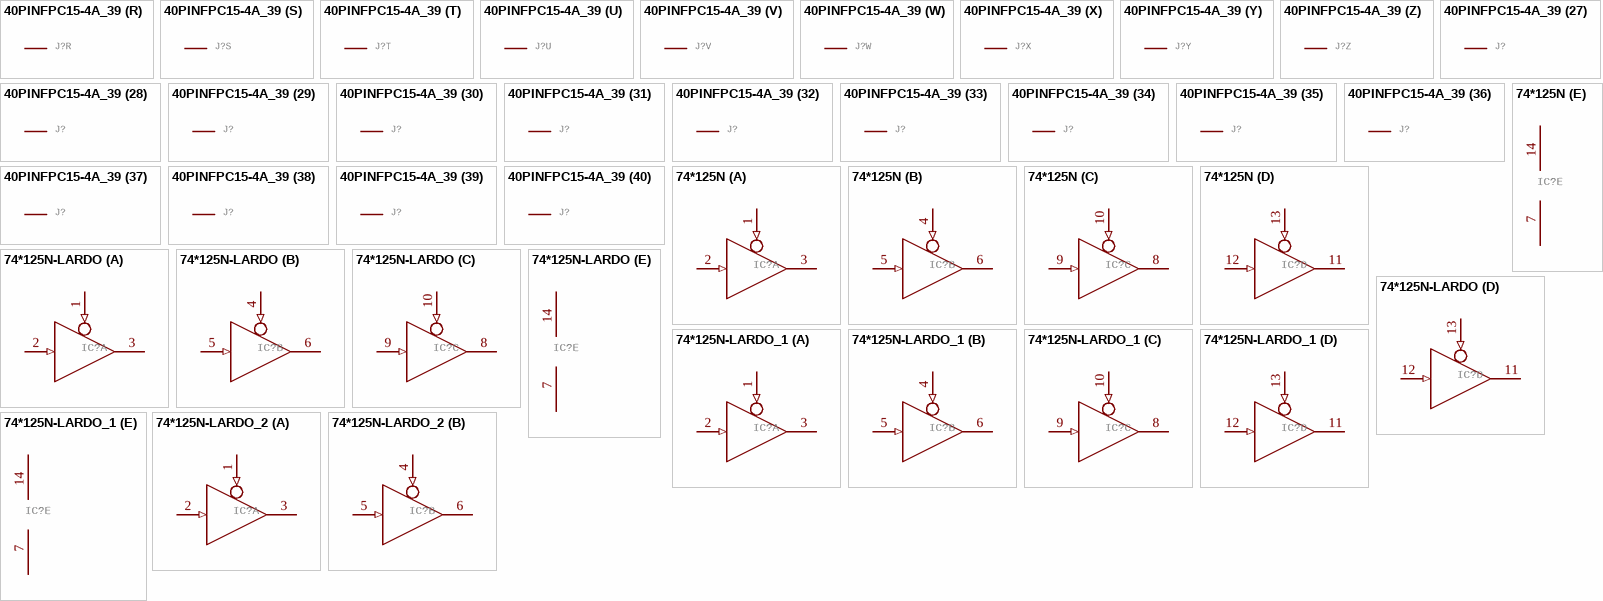
[diagram p160: symbols 40PINFPC15-4A_39 to 74*125N-LARDO_2]

## 40PINFPC15-4A_39
designator J?, comment OMRON FPC Connector   Source : http://www.omron.com/ecb/products/pdf/fpc.pdf    XF2M-4015-rev is good for connecting up 'PSP' SHARP LQ043 LCDs  (value not drawn)
GateName_1: -1; SymbolName_1: PV; GateName_2: -2; SymbolName_2: P; GateName_3: -3; GateName_4: -4; GateName_5: -5; GateName_6: -6; GateName_7: -7; GateName_8: -8; GateName_9: -9; GateName_10: -10; GateName_11: -11; GateName_12: -12; GateName_13: -13; GateName_14: -14; GateName_15: -15; GateName_16: -16; GateName_17: -17; GateName_18: -18; GateName_19: -19; GateName_20: -20; GateName_21: -21; GateName_22: -22; GateName_23: -23; GateName_24: -24; GateName_25: -25; GateName_26: -26; GateName_27: -27; GateName_28: -28; GateName_29: -29; GateName_30: -30; GateName_31: -31; GateName_32: -32; GateName_33: -33; GateName_34: -34; GateName_35: -35; GateName_36: -36; GateName_37: -37; GateName_38: -38; GateName_39: -39; GateName_40: -40; DeviceName: 15-4A; DeviceSetName: 40PINFPC; SymbolName_3: P; SymbolName_4: P; SymbolName_5: P; SymbolName_6: P; SymbolName_7: P; SymbolName_8: P; SymbolName_9: P; SymbolName_10: P; SymbolName_11: P; SymbolName_12: P; SymbolName_13: P; SymbolName_14: P; SymbolName_15: P; SymbolName_16: P; SymbolName_17: P; SymbolName_18: P; SymbolName_19: P; SymbolName_20: P; SymbolName_21: P; SymbolName_22: P; SymbolName_23: P; SymbolName_24: P; SymbolName_25: P; SymbolName_26: P; SymbolName_27: P; SymbolName_28: P; SymbolName_29: P; SymbolName_30: P; SymbolName_31: P; SymbolName_32: P; SymbolName_33: P; SymbolName_34: P; SymbolName_35: P; SymbolName_36: P; SymbolName_37: P; SymbolName_38: P; SymbolName_39: P; SymbolName_40: P; LibraryName: adafruit; Package: XF2R-4015-4A
footprint XF2R-4015-4A
part A pins: 1 MSV
part B pins: 2 MS
part C pins: 3 MS
part D pins: 4 MS
part E pins: 5 MS
part F pins: 6 MS
part G pins: 7 MS
part H pins: 8 MS
part I pins: 9 MS
part J pins: 10 MS
part K pins: 11 MS
part L pins: 12 MS
part M pins: 13 MS
part N pins: 14 MS
part O pins: 15 MS
part P pins: 16 MS
part Q pins: 17 MS
part R pins: 18 MS
part S pins: 19 MS
part T pins: 20 MS
part U pins: 21 MS
part V pins: 22 MS
part W pins: 23 MS
part X pins: 24 MS
part Y pins: 25 MS
part Z pins: 26 MS
part 27 pins: 27 MS
part 28 pins: 28 MS
part 29 pins: 29 MS
part 30 pins: 30 MS
part 31 pins: 31 MS
part 32 pins: 32 MS
part 33 pins: 33 MS
part 34 pins: 34 MS
part 35 pins: 35 MS
part 36 pins: 36 MS
part 37 pins: 37 MS
part 38 pins: 38 MS
part 39 pins: 39 MS
part 40 pins: 40 MS

## 74*125N
designator IC?, comment Quad bus BUFFER, 3-state  (value not drawn)
GateName_1: A; SymbolName_1: 74125; GateName_2: B; GateName_3: C; GateName_4: D; GateName_5: P; SymbolName_5: PWRN; DeviceName: N; DeviceSetName: 74*125; SymbolName_2: 74125; SymbolName_3: 74125; SymbolName_4: 74125; LibraryName: adafruit; Package: DIL14
footprint DIL14
part A pins: 1 OE (in), 2 I (in), 3 O (hiz)
part B pins: 4 OE (in), 5 I (in), 6 O (hiz)
part C pins: 8 O (hiz), 9 I (in), 10 OE (in)
part D pins: 11 O (hiz), 12 I (in), 13 OE (in)
part E pins: 7 GND (power), 14 VCC (power)

## 74*125N-LARDO
designator IC?, comment Quad bus BUFFER, 3-state  (value not drawn)
GateName_1: A; SymbolName_1: 74125; GateName_2: B; GateName_3: C; GateName_4: D; GateName_5: P; SymbolName_5: PWRN; DeviceName: N-LARDO; DeviceSetName: 74*125; SymbolName_2: 74125; SymbolName_3: 74125; SymbolName_4: 74125; LibraryName: adafruit; Package: DIL14-LARDO
footprint DIL14-LARDO
part A pins: 1 OE (in), 2 I (in), 3 O (hiz)
part B pins: 4 OE (in), 5 I (in), 6 O (hiz)
part C pins: 8 O (hiz), 9 I (in), 10 OE (in)
part D pins: 11 O (hiz), 12 I (in), 13 OE (in)
part E pins: 7 GND (power), 14 VCC (power)

## 74*125N-LARDO_1
designator IC?, comment Quad bus BUFFER, 3-state  (value not drawn)
GateName_1: A; SymbolName_1: 74125; GateName_2: B; GateName_3: C; GateName_4: D; GateName_5: P; SymbolName_5: PWRN; DeviceName: N-LARDO; DeviceSetName: 74*125; SymbolName_2: 74125; SymbolName_3: 74125; SymbolName_4: 74125; LibraryName: adafruit; Package: DIL14-LARDO
footprint DIL14-LARDO
part A pins: 1 OE (in), 2 I (in), 3 O (hiz)
part B pins: 4 OE (in), 5 I (in), 6 O (hiz)
part C pins: 8 O (hiz), 9 I (in), 10 OE (in)
part D pins: 11 O (hiz), 12 I (in), 13 OE (in)
part E pins: 7 GND (power), 14 VCC (power)

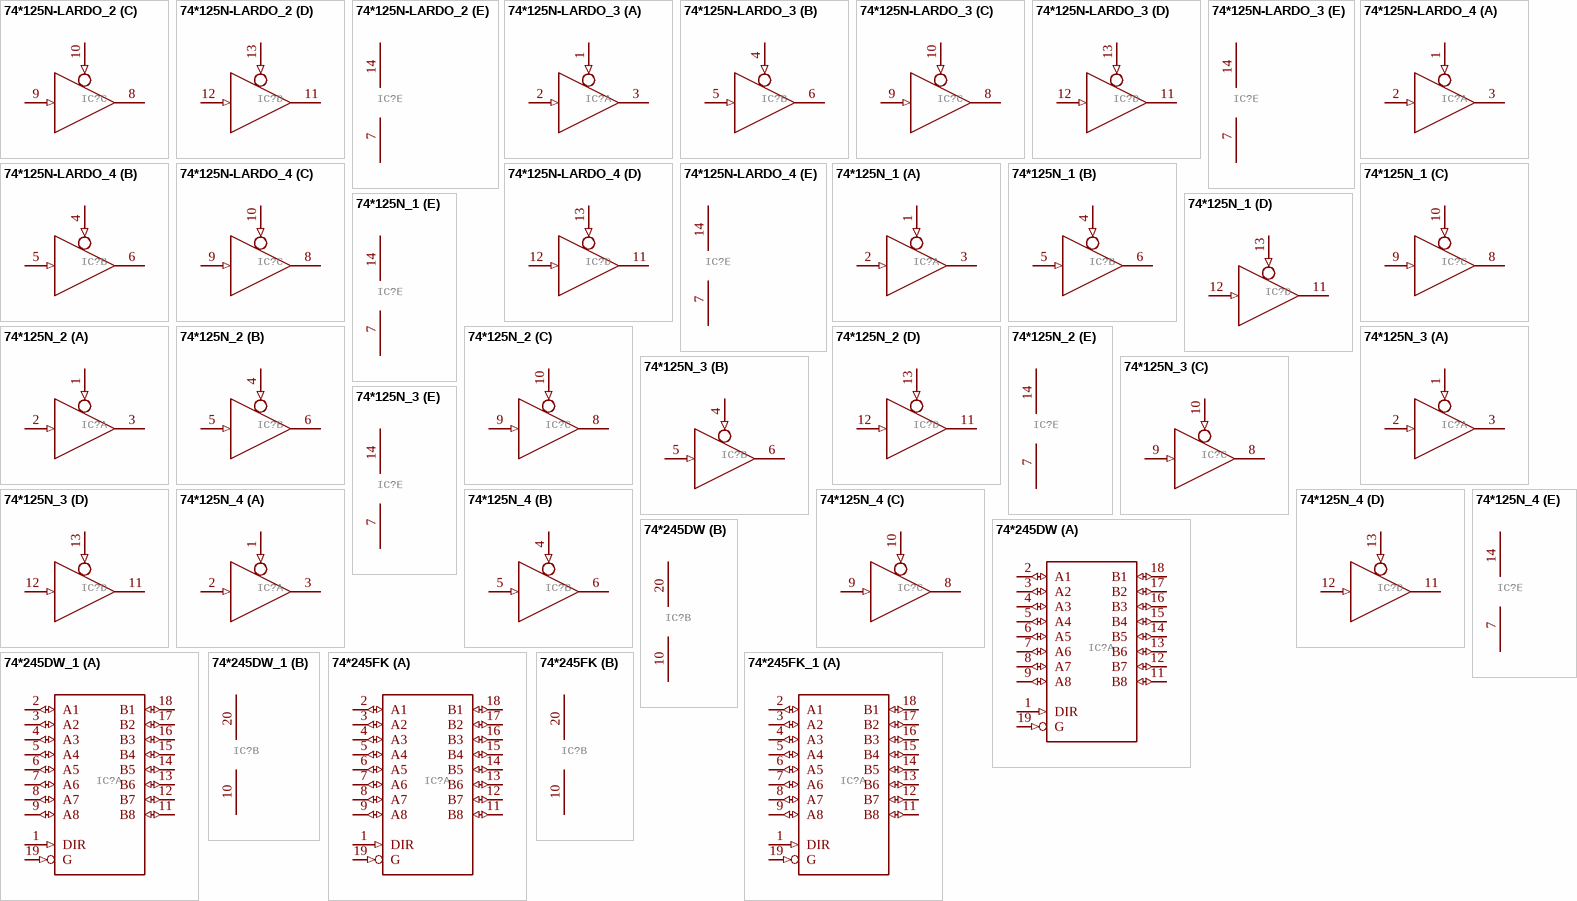
[diagram p161: symbols 74*125N-LARDO_2 to 74*245FK_1]

## 74*125N-LARDO_2
designator IC?, comment Quad bus BUFFER, 3-state  (value not drawn)
GateName_1: A; SymbolName_1: 74125; GateName_2: B; GateName_3: C; GateName_4: D; GateName_5: P; SymbolName_5: PWRN; DeviceName: N-LARDO; DeviceSetName: 74*125; SymbolName_2: 74125; SymbolName_3: 74125; SymbolName_4: 74125; LibraryName: adafruit; Package: DIL14-LARDO
footprint DIL14-LARDO
part A pins: 1 OE (in), 2 I (in), 3 O (hiz)
part B pins: 4 OE (in), 5 I (in), 6 O (hiz)
part C pins: 8 O (hiz), 9 I (in), 10 OE (in)
part D pins: 11 O (hiz), 12 I (in), 13 OE (in)
part E pins: 7 GND (power), 14 VCC (power)

## 74*125N-LARDO_3
designator IC?, comment Quad bus BUFFER, 3-state  (value not drawn)
GateName_1: A; SymbolName_1: 74125; GateName_2: B; GateName_3: C; GateName_4: D; GateName_5: P; SymbolName_5: PWRN; DeviceName: N-LARDO; DeviceSetName: 74*125; SymbolName_2: 74125; SymbolName_3: 74125; SymbolName_4: 74125; LibraryName: adafruit; Package: DIL14-LARDO
footprint DIL14-LARDO
part A pins: 1 OE (in), 2 I (in), 3 O (hiz)
part B pins: 4 OE (in), 5 I (in), 6 O (hiz)
part C pins: 8 O (hiz), 9 I (in), 10 OE (in)
part D pins: 11 O (hiz), 12 I (in), 13 OE (in)
part E pins: 7 GND (power), 14 VCC (power)

## 74*125N-LARDO_4
designator IC?, comment Quad bus BUFFER, 3-state  (value not drawn)
GateName_1: A; SymbolName_1: 74125; GateName_2: B; GateName_3: C; GateName_4: D; GateName_5: P; SymbolName_5: PWRN; DeviceName: N-LARDO; DeviceSetName: 74*125; SymbolName_2: 74125; SymbolName_3: 74125; SymbolName_4: 74125; LibraryName: adafruit; Package: DIL14-LARDO
footprint DIL14-LARDO
part A pins: 1 OE (in), 2 I (in), 3 O (hiz)
part B pins: 4 OE (in), 5 I (in), 6 O (hiz)
part C pins: 8 O (hiz), 9 I (in), 10 OE (in)
part D pins: 11 O (hiz), 12 I (in), 13 OE (in)
part E pins: 7 GND (power), 14 VCC (power)

## 74*125N_1
designator IC?, comment Quad bus BUFFER, 3-state  (value not drawn)
GateName_1: A; SymbolName_1: 74125; GateName_2: B; GateName_3: C; GateName_4: D; GateName_5: P; SymbolName_5: PWRN; DeviceName: N; DeviceSetName: 74*125; SymbolName_2: 74125; SymbolName_3: 74125; SymbolName_4: 74125; LibraryName: adafruit; Package: DIL14
footprint DIL14
part A pins: 1 OE (in), 2 I (in), 3 O (hiz)
part B pins: 4 OE (in), 5 I (in), 6 O (hiz)
part C pins: 8 O (hiz), 9 I (in), 10 OE (in)
part D pins: 11 O (hiz), 12 I (in), 13 OE (in)
part E pins: 7 GND (power), 14 VCC (power)

## 74*125N_2
designator IC?, comment Quad bus BUFFER, 3-state  (value not drawn)
GateName_1: A; SymbolName_1: 74125; GateName_2: B; GateName_3: C; GateName_4: D; GateName_5: P; SymbolName_5: PWRN; DeviceName: N; DeviceSetName: 74*125; SymbolName_2: 74125; SymbolName_3: 74125; SymbolName_4: 74125; LibraryName: adafruit; Package: DIL14
footprint DIL14
part A pins: 1 OE (in), 2 I (in), 3 O (hiz)
part B pins: 4 OE (in), 5 I (in), 6 O (hiz)
part C pins: 8 O (hiz), 9 I (in), 10 OE (in)
part D pins: 11 O (hiz), 12 I (in), 13 OE (in)
part E pins: 7 GND (power), 14 VCC (power)

## 74*125N_3
designator IC?, comment Quad bus BUFFER, 3-state  (value not drawn)
GateName_1: A; SymbolName_1: 74125; GateName_2: B; GateName_3: C; GateName_4: D; GateName_5: P; SymbolName_5: PWRN; DeviceName: N; DeviceSetName: 74*125; SymbolName_2: 74125; SymbolName_3: 74125; SymbolName_4: 74125; LibraryName: adafruit; Package: DIL14
footprint DIL14
part A pins: 1 OE (in), 2 I (in), 3 O (hiz)
part B pins: 4 OE (in), 5 I (in), 6 O (hiz)
part C pins: 8 O (hiz), 9 I (in), 10 OE (in)
part D pins: 11 O (hiz), 12 I (in), 13 OE (in)
part E pins: 7 GND (power), 14 VCC (power)

## 74*125N_4
designator IC?, comment Quad bus BUFFER, 3-state  (value not drawn)
GateName_1: A; SymbolName_1: 74125; GateName_2: B; GateName_3: C; GateName_4: D; GateName_5: P; SymbolName_5: PWRN; DeviceName: N; DeviceSetName: 74*125; SymbolName_2: 74125; SymbolName_3: 74125; SymbolName_4: 74125; LibraryName: adafruit; Package: DIL14
footprint DIL14
part A pins: 1 OE (in), 2 I (in), 3 O (hiz)
part B pins: 4 OE (in), 5 I (in), 6 O (hiz)
part C pins: 8 O (hiz), 9 I (in), 10 OE (in)
part D pins: 11 O (hiz), 12 I (in), 13 OE (in)
part E pins: 7 GND (power), 14 VCC (power)

## 74*245DW
designator IC?, comment Octal BUS TRANSCEIVER, 3-state  (value not drawn)
GateName_1: A; SymbolName_1: 74245; GateName_2: P; SymbolName_2: PWRN; DeviceName: DW; DeviceSetName: 74*245; LibraryName: adafruit; Package: SO20W
footprint SO20W
part A pins: 1 DIR (in), 2 A1 (io), 3 A2 (io), 4 A3 (io), 5 A4 (io), 6 A5 (io), 7 A6 (io), 8 A7 (io), 9 A8 (io), 11 B8 (io), 12 B7 (io), 13 B6 (io), 14 B5 (io), 15 B4 (io), 16 B3 (io), 17 B2 (io), 18 B1 (io), 19 G (in)
part B pins: 10 GND (power), 20 VCC (power)

## 74*245DW_1
designator IC?, comment Octal BUS TRANSCEIVER, 3-state  (value not drawn)
GateName_1: A; SymbolName_1: 74245; GateName_2: P; SymbolName_2: PWRN; DeviceName: DW; DeviceSetName: 74*245; LibraryName: adafruit; Package: SO20W
footprint SO20W
part A pins: 1 DIR (in), 2 A1 (io), 3 A2 (io), 4 A3 (io), 5 A4 (io), 6 A5 (io), 7 A6 (io), 8 A7 (io), 9 A8 (io), 11 B8 (io), 12 B7 (io), 13 B6 (io), 14 B5 (io), 15 B4 (io), 16 B3 (io), 17 B2 (io), 18 B1 (io), 19 G (in)
part B pins: 10 GND (power), 20 VCC (power)

## 74*245FK
designator IC?, comment Octal BUS TRANSCEIVER, 3-state  (value not drawn)
GateName_1: A; SymbolName_1: 74245; GateName_2: P; SymbolName_2: PWRN; DeviceName: FK; DeviceSetName: 74*245; LibraryName: adafruit; Package: LCC20
footprint LCC20
part A pins: 1 DIR (in), 2 A1 (io), 3 A2 (io), 4 A3 (io), 5 A4 (io), 6 A5 (io), 7 A6 (io), 8 A7 (io), 9 A8 (io), 11 B8 (io), 12 B7 (io), 13 B6 (io), 14 B5 (io), 15 B4 (io), 16 B3 (io), 17 B2 (io), 18 B1 (io), 19 G (in)
part B pins: 10 GND (power), 20 VCC (power)

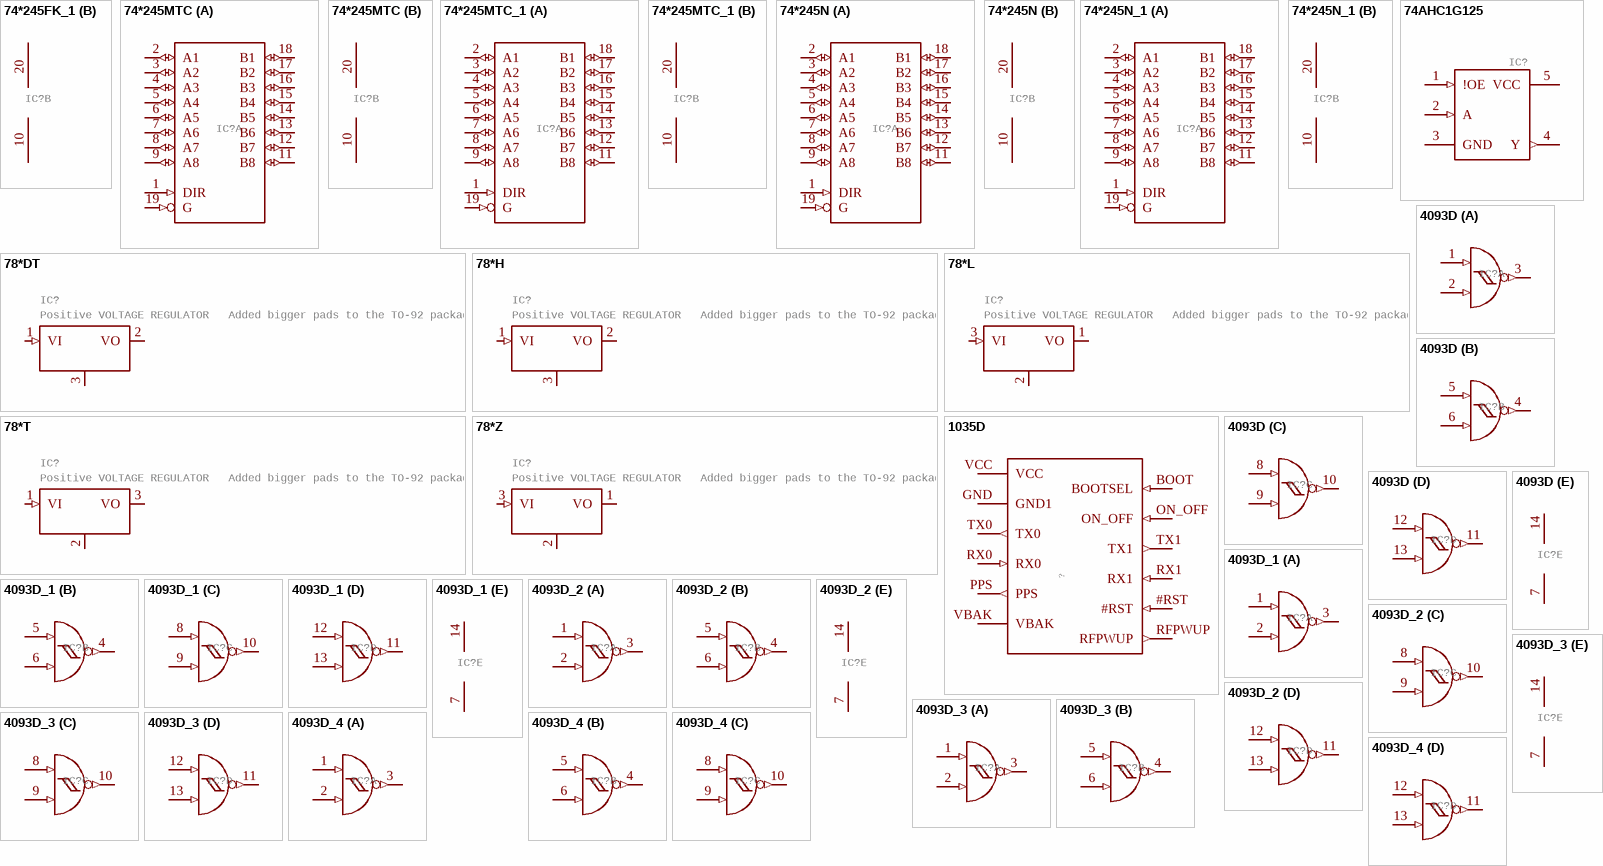
[diagram p162: symbols 74*245FK_1 to 4093D_4]

## 74*245FK_1
designator IC?, comment Octal BUS TRANSCEIVER, 3-state  (value not drawn)
GateName_1: A; SymbolName_1: 74245; GateName_2: P; SymbolName_2: PWRN; DeviceName: FK; DeviceSetName: 74*245; LibraryName: adafruit; Package: LCC20
footprint LCC20
part A pins: 1 DIR (in), 2 A1 (io), 3 A2 (io), 4 A3 (io), 5 A4 (io), 6 A5 (io), 7 A6 (io), 8 A7 (io), 9 A8 (io), 11 B8 (io), 12 B7 (io), 13 B6 (io), 14 B5 (io), 15 B4 (io), 16 B3 (io), 17 B2 (io), 18 B1 (io), 19 G (in)
part B pins: 10 GND (power), 20 VCC (power)

## 74*245MTC
designator IC?, comment Octal BUS TRANSCEIVER, 3-state  (value not drawn)
GateName_1: A; SymbolName_1: 74245; GateName_2: P; SymbolName_2: PWRN; DeviceName: MTC; DeviceSetName: 74*245; LibraryName: adafruit; Package: SSOP20
footprint SSOP20
part A pins: 1 DIR (in), 2 A1 (io), 3 A2 (io), 4 A3 (io), 5 A4 (io), 6 A5 (io), 7 A6 (io), 8 A7 (io), 9 A8 (io), 11 B8 (io), 12 B7 (io), 13 B6 (io), 14 B5 (io), 15 B4 (io), 16 B3 (io), 17 B2 (io), 18 B1 (io), 19 G (in)
part B pins: 10 GND (power), 20 VCC (power)

## 74*245MTC_1
designator IC?, comment Octal BUS TRANSCEIVER, 3-state  (value not drawn)
GateName_1: A; SymbolName_1: 74245; GateName_2: P; SymbolName_2: PWRN; DeviceName: MTC; DeviceSetName: 74*245; LibraryName: adafruit; Package: SSOP20
footprint SSOP20
part A pins: 1 DIR (in), 2 A1 (io), 3 A2 (io), 4 A3 (io), 5 A4 (io), 6 A5 (io), 7 A6 (io), 8 A7 (io), 9 A8 (io), 11 B8 (io), 12 B7 (io), 13 B6 (io), 14 B5 (io), 15 B4 (io), 16 B3 (io), 17 B2 (io), 18 B1 (io), 19 G (in)
part B pins: 10 GND (power), 20 VCC (power)

## 74*245N
designator IC?, comment Octal BUS TRANSCEIVER, 3-state  (value not drawn)
GateName_1: A; SymbolName_1: 74245; GateName_2: P; SymbolName_2: PWRN; DeviceName: N; DeviceSetName: 74*245; LibraryName: adafruit; Package: DIL20
footprint DIL20
part A pins: 1 DIR (in), 2 A1 (io), 3 A2 (io), 4 A3 (io), 5 A4 (io), 6 A5 (io), 7 A6 (io), 8 A7 (io), 9 A8 (io), 11 B8 (io), 12 B7 (io), 13 B6 (io), 14 B5 (io), 15 B4 (io), 16 B3 (io), 17 B2 (io), 18 B1 (io), 19 G (in)
part B pins: 10 GND (power), 20 VCC (power)

## 74*245N_1
designator IC?, comment Octal BUS TRANSCEIVER, 3-state  (value not drawn)
GateName_1: A; SymbolName_1: 74245; GateName_2: P; SymbolName_2: PWRN; DeviceName: N; DeviceSetName: 74*245; LibraryName: adafruit; Package: DIL20
footprint DIL20
part A pins: 1 DIR (in), 2 A1 (io), 3 A2 (io), 4 A3 (io), 5 A4 (io), 6 A5 (io), 7 A6 (io), 8 A7 (io), 9 A8 (io), 11 B8 (io), 12 B7 (io), 13 B6 (io), 14 B5 (io), 15 B4 (io), 16 B3 (io), 17 B2 (io), 18 B1 (io), 19 G (in)
part B pins: 10 GND (power), 20 VCC (power)

## 74AHC1G125
designator IC?
GateName_1: G$1; SymbolName_1: 74AHC1G125; LibraryName: adafruit; DeviceSetName: 74AHC1G125; Package: SOT23-5L
footprint SOT23-5L
pins: 1 !OE (in), 2 A (in), 3 GND (power), 4 Y (out), 5 VCC (power)

## 78*DT
designator IC?, comment Positive VOLTAGE REGULATOR   Added bigger pads to the TO-92 package
GateName_1: A1; SymbolName_1: 78XX; DeviceName: DT; DeviceSetName: 78*; LibraryName: adafruit; Package: TO252
footprint TO252
pins: 1 VI (in), 2 VO, 3 GND

## 78*H
designator IC?, comment Positive VOLTAGE REGULATOR   Added bigger pads to the TO-92 package
GateName_1: A1; SymbolName_1: 78XX; DeviceName: H; DeviceSetName: 78*; LibraryName: adafruit; Package: TO39
footprint TO39
pins: 1 VI (in), 2 VO, 3 GND

## 78*L
designator IC?, comment Positive VOLTAGE REGULATOR   Added bigger pads to the TO-92 package
GateName_1: A1; SymbolName_1: 78XX; DeviceName: L; DeviceSetName: 78*; LibraryName: adafruit; Package: TO92
footprint TO92
pins: 1 VO, 2 GND, 3 VI (in)

## 78*T
designator IC?, comment Positive VOLTAGE REGULATOR   Added bigger pads to the TO-92 package
GateName_1: A1; SymbolName_1: 78XX; DeviceName: T; DeviceSetName: 78*; LibraryName: adafruit; Package: TO220H
footprint TO220H
pins: 1 VI (in), 2 GND, 3 VO

## 78*Z
designator IC?, comment Positive VOLTAGE REGULATOR   Added bigger pads to the TO-92 package
GateName_1: A1; SymbolName_1: 78XX; DeviceName: Z; DeviceSetName: 78*; LibraryName: adafruit; Package: TO92
footprint TO92
pins: 1 VO, 2 GND, 3 VI (in)

## 1035D
designator ?
GateName_1: G$1; SymbolName_1: 1035D; LibraryName: adafruit; DeviceSetName: 1035D; Package: 1035D
footprint 1035D
pins: #RST (in), BOOT BOOTSEL (in), GND GND1 (power), ON_OFF (in), PPS (out), RFPWUP (out), RX0 (in), RX1 (in), TX0 (out), TX1 (out), VBAK (power), VCC (power)

## 4093D
designator IC?, comment Quad 2-input NAND schmitt trigger  (value not drawn)
GateName_1: A; SymbolName_1: 4093; GateName_2: B; GateName_3: C; GateName_4: D; GateName_5: P; SymbolName_5: PWRN-1; SymbolName_2: 4093; SymbolName_3: 4093; SymbolName_4: 4093; DeviceName: D; LibraryName: adafruit; DeviceSetName: 4093; Package: SO14
footprint SO14
part A pins: 1 I0 (in), 2 I1 (in), 3 O (out)
part B pins: 4 O (out), 5 I0 (in), 6 I1 (in)
part C pins: 8 I0 (in), 9 I1 (in), 10 O (out)
part D pins: 11 O (out), 12 I0 (in), 13 I1 (in)
part E pins: 7 VSS (power), 14 VDD (power)

## 4093D_1
designator IC?, comment Quad 2-input NAND schmitt trigger  (value not drawn)
GateName_1: A; SymbolName_1: 4093; GateName_2: B; GateName_3: C; GateName_4: D; GateName_5: P; SymbolName_5: PWRN-1; SymbolName_2: 4093; SymbolName_3: 4093; SymbolName_4: 4093; DeviceName: D; LibraryName: adafruit; DeviceSetName: 4093; Package: SO14
footprint SO14
part A pins: 1 I0 (in), 2 I1 (in), 3 O (out)
part B pins: 4 O (out), 5 I0 (in), 6 I1 (in)
part C pins: 8 I0 (in), 9 I1 (in), 10 O (out)
part D pins: 11 O (out), 12 I0 (in), 13 I1 (in)
part E pins: 7 VSS (power), 14 VDD (power)

## 4093D_2
designator IC?, comment Quad 2-input NAND schmitt trigger  (value not drawn)
GateName_1: A; SymbolName_1: 4093; GateName_2: B; GateName_3: C; GateName_4: D; GateName_5: P; SymbolName_5: PWRN-1; SymbolName_2: 4093; SymbolName_3: 4093; SymbolName_4: 4093; DeviceName: D; LibraryName: adafruit; DeviceSetName: 4093; Package: SO14
footprint SO14
part A pins: 1 I0 (in), 2 I1 (in), 3 O (out)
part B pins: 4 O (out), 5 I0 (in), 6 I1 (in)
part C pins: 8 I0 (in), 9 I1 (in), 10 O (out)
part D pins: 11 O (out), 12 I0 (in), 13 I1 (in)
part E pins: 7 VSS (power), 14 VDD (power)

## 4093D_3
designator IC?, comment Quad 2-input NAND schmitt trigger  (value not drawn)
GateName_1: A; SymbolName_1: 4093; GateName_2: B; GateName_3: C; GateName_4: D; GateName_5: P; SymbolName_5: PWRN-1; SymbolName_2: 4093; SymbolName_3: 4093; SymbolName_4: 4093; DeviceName: D; LibraryName: adafruit; DeviceSetName: 4093; Package: SO14
footprint SO14
part A pins: 1 I0 (in), 2 I1 (in), 3 O (out)
part B pins: 4 O (out), 5 I0 (in), 6 I1 (in)
part C pins: 8 I0 (in), 9 I1 (in), 10 O (out)
part D pins: 11 O (out), 12 I0 (in), 13 I1 (in)
part E pins: 7 VSS (power), 14 VDD (power)

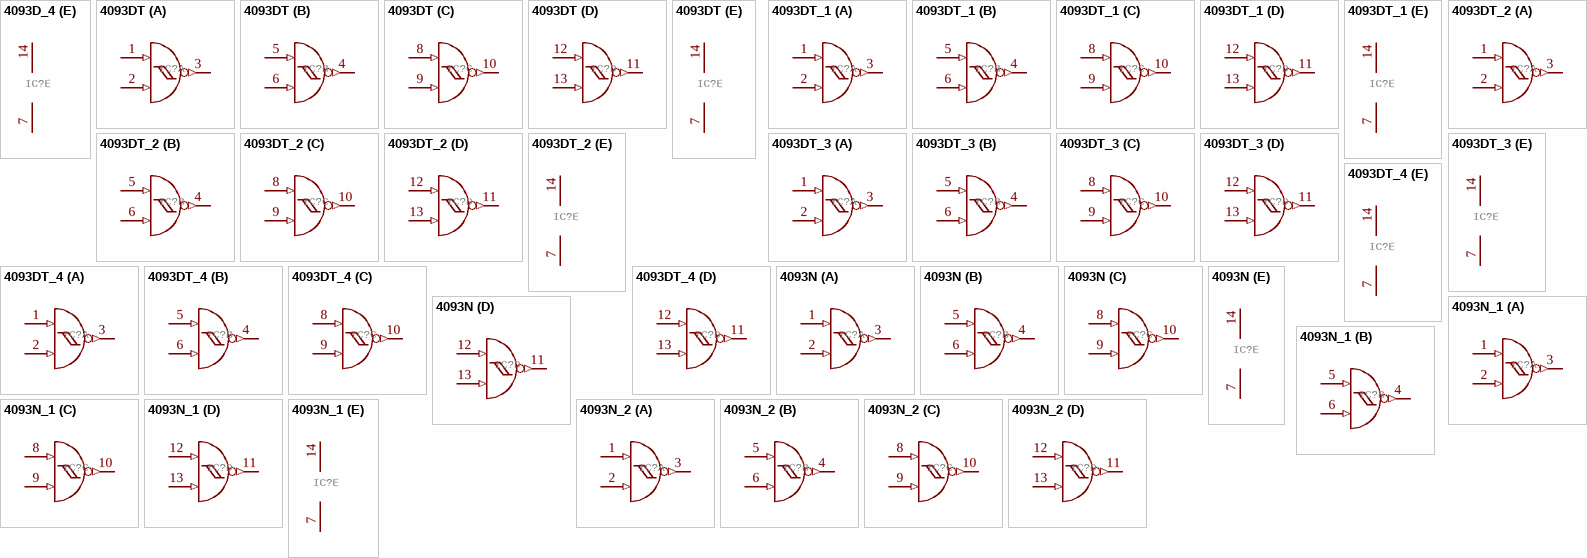
[diagram p163: symbols 4093D_4 to 4093N_2]

## 4093D_4
designator IC?, comment Quad 2-input NAND schmitt trigger  (value not drawn)
GateName_1: A; SymbolName_1: 4093; GateName_2: B; GateName_3: C; GateName_4: D; GateName_5: P; SymbolName_5: PWRN-1; SymbolName_2: 4093; SymbolName_3: 4093; SymbolName_4: 4093; DeviceName: D; LibraryName: adafruit; DeviceSetName: 4093; Package: SO14
footprint SO14
part A pins: 1 I0 (in), 2 I1 (in), 3 O (out)
part B pins: 4 O (out), 5 I0 (in), 6 I1 (in)
part C pins: 8 I0 (in), 9 I1 (in), 10 O (out)
part D pins: 11 O (out), 12 I0 (in), 13 I1 (in)
part E pins: 7 VSS (power), 14 VDD (power)

## 4093DT
designator IC?, comment Quad 2-input NAND schmitt trigger  (value not drawn)
GateName_1: A; SymbolName_1: 4093; GateName_2: B; GateName_3: C; GateName_4: D; GateName_5: P; SymbolName_5: PWRN-1; DeviceName: DT; SymbolName_2: 4093; SymbolName_3: 4093; SymbolName_4: 4093; LibraryName: adafruit; DeviceSetName: 4093; Package: MC14093B-TSSOP14
footprint MC14093B-TSSOP14
part A pins: 1 I0 (in), 2 I1 (in), 3 O (out)
part B pins: 4 O (out), 5 I0 (in), 6 I1 (in)
part C pins: 8 I0 (in), 9 I1 (in), 10 O (out)
part D pins: 11 O (out), 12 I0 (in), 13 I1 (in)
part E pins: 7 VSS (power), 14 VDD (power)

## 4093DT_1
designator IC?, comment Quad 2-input NAND schmitt trigger  (value not drawn)
GateName_1: A; SymbolName_1: 4093; GateName_2: B; GateName_3: C; GateName_4: D; GateName_5: P; SymbolName_5: PWRN-1; DeviceName: DT; SymbolName_2: 4093; SymbolName_3: 4093; SymbolName_4: 4093; LibraryName: adafruit; DeviceSetName: 4093; Package: MC14093B-TSSOP14
footprint MC14093B-TSSOP14
part A pins: 1 I0 (in), 2 I1 (in), 3 O (out)
part B pins: 4 O (out), 5 I0 (in), 6 I1 (in)
part C pins: 8 I0 (in), 9 I1 (in), 10 O (out)
part D pins: 11 O (out), 12 I0 (in), 13 I1 (in)
part E pins: 7 VSS (power), 14 VDD (power)

## 4093DT_2
designator IC?, comment Quad 2-input NAND schmitt trigger  (value not drawn)
GateName_1: A; SymbolName_1: 4093; GateName_2: B; GateName_3: C; GateName_4: D; GateName_5: P; SymbolName_5: PWRN-1; DeviceName: DT; SymbolName_2: 4093; SymbolName_3: 4093; SymbolName_4: 4093; LibraryName: adafruit; DeviceSetName: 4093; Package: MC14093B-TSSOP14
footprint MC14093B-TSSOP14
part A pins: 1 I0 (in), 2 I1 (in), 3 O (out)
part B pins: 4 O (out), 5 I0 (in), 6 I1 (in)
part C pins: 8 I0 (in), 9 I1 (in), 10 O (out)
part D pins: 11 O (out), 12 I0 (in), 13 I1 (in)
part E pins: 7 VSS (power), 14 VDD (power)

## 4093DT_3
designator IC?, comment Quad 2-input NAND schmitt trigger  (value not drawn)
GateName_1: A; SymbolName_1: 4093; GateName_2: B; GateName_3: C; GateName_4: D; GateName_5: P; SymbolName_5: PWRN-1; DeviceName: DT; SymbolName_2: 4093; SymbolName_3: 4093; SymbolName_4: 4093; LibraryName: adafruit; DeviceSetName: 4093; Package: MC14093B-TSSOP14
footprint MC14093B-TSSOP14
part A pins: 1 I0 (in), 2 I1 (in), 3 O (out)
part B pins: 4 O (out), 5 I0 (in), 6 I1 (in)
part C pins: 8 I0 (in), 9 I1 (in), 10 O (out)
part D pins: 11 O (out), 12 I0 (in), 13 I1 (in)
part E pins: 7 VSS (power), 14 VDD (power)

## 4093DT_4
designator IC?, comment Quad 2-input NAND schmitt trigger  (value not drawn)
GateName_1: A; SymbolName_1: 4093; GateName_2: B; GateName_3: C; GateName_4: D; GateName_5: P; SymbolName_5: PWRN-1; DeviceName: DT; SymbolName_2: 4093; SymbolName_3: 4093; SymbolName_4: 4093; LibraryName: adafruit; DeviceSetName: 4093; Package: MC14093B-TSSOP14
footprint MC14093B-TSSOP14
part A pins: 1 I0 (in), 2 I1 (in), 3 O (out)
part B pins: 4 O (out), 5 I0 (in), 6 I1 (in)
part C pins: 8 I0 (in), 9 I1 (in), 10 O (out)
part D pins: 11 O (out), 12 I0 (in), 13 I1 (in)
part E pins: 7 VSS (power), 14 VDD (power)

## 4093N
designator IC?, comment Quad 2-input NAND schmitt trigger  (value not drawn)
GateName_1: A; SymbolName_1: 4093; GateName_2: B; GateName_3: C; GateName_4: D; GateName_5: P; SymbolName_5: PWRN-1; DeviceName: N; SymbolName_2: 4093; SymbolName_3: 4093; SymbolName_4: 4093; LibraryName: adafruit; DeviceSetName: 4093; Package: DIL14
footprint DIL14
part A pins: 1 I0 (in), 2 I1 (in), 3 O (out)
part B pins: 4 O (out), 5 I0 (in), 6 I1 (in)
part C pins: 8 I0 (in), 9 I1 (in), 10 O (out)
part D pins: 11 O (out), 12 I0 (in), 13 I1 (in)
part E pins: 7 VSS (power), 14 VDD (power)

## 4093N_1
designator IC?, comment Quad 2-input NAND schmitt trigger  (value not drawn)
GateName_1: A; SymbolName_1: 4093; GateName_2: B; GateName_3: C; GateName_4: D; GateName_5: P; SymbolName_5: PWRN-1; DeviceName: N; SymbolName_2: 4093; SymbolName_3: 4093; SymbolName_4: 4093; LibraryName: adafruit; DeviceSetName: 4093; Package: DIL14
footprint DIL14
part A pins: 1 I0 (in), 2 I1 (in), 3 O (out)
part B pins: 4 O (out), 5 I0 (in), 6 I1 (in)
part C pins: 8 I0 (in), 9 I1 (in), 10 O (out)
part D pins: 11 O (out), 12 I0 (in), 13 I1 (in)
part E pins: 7 VSS (power), 14 VDD (power)

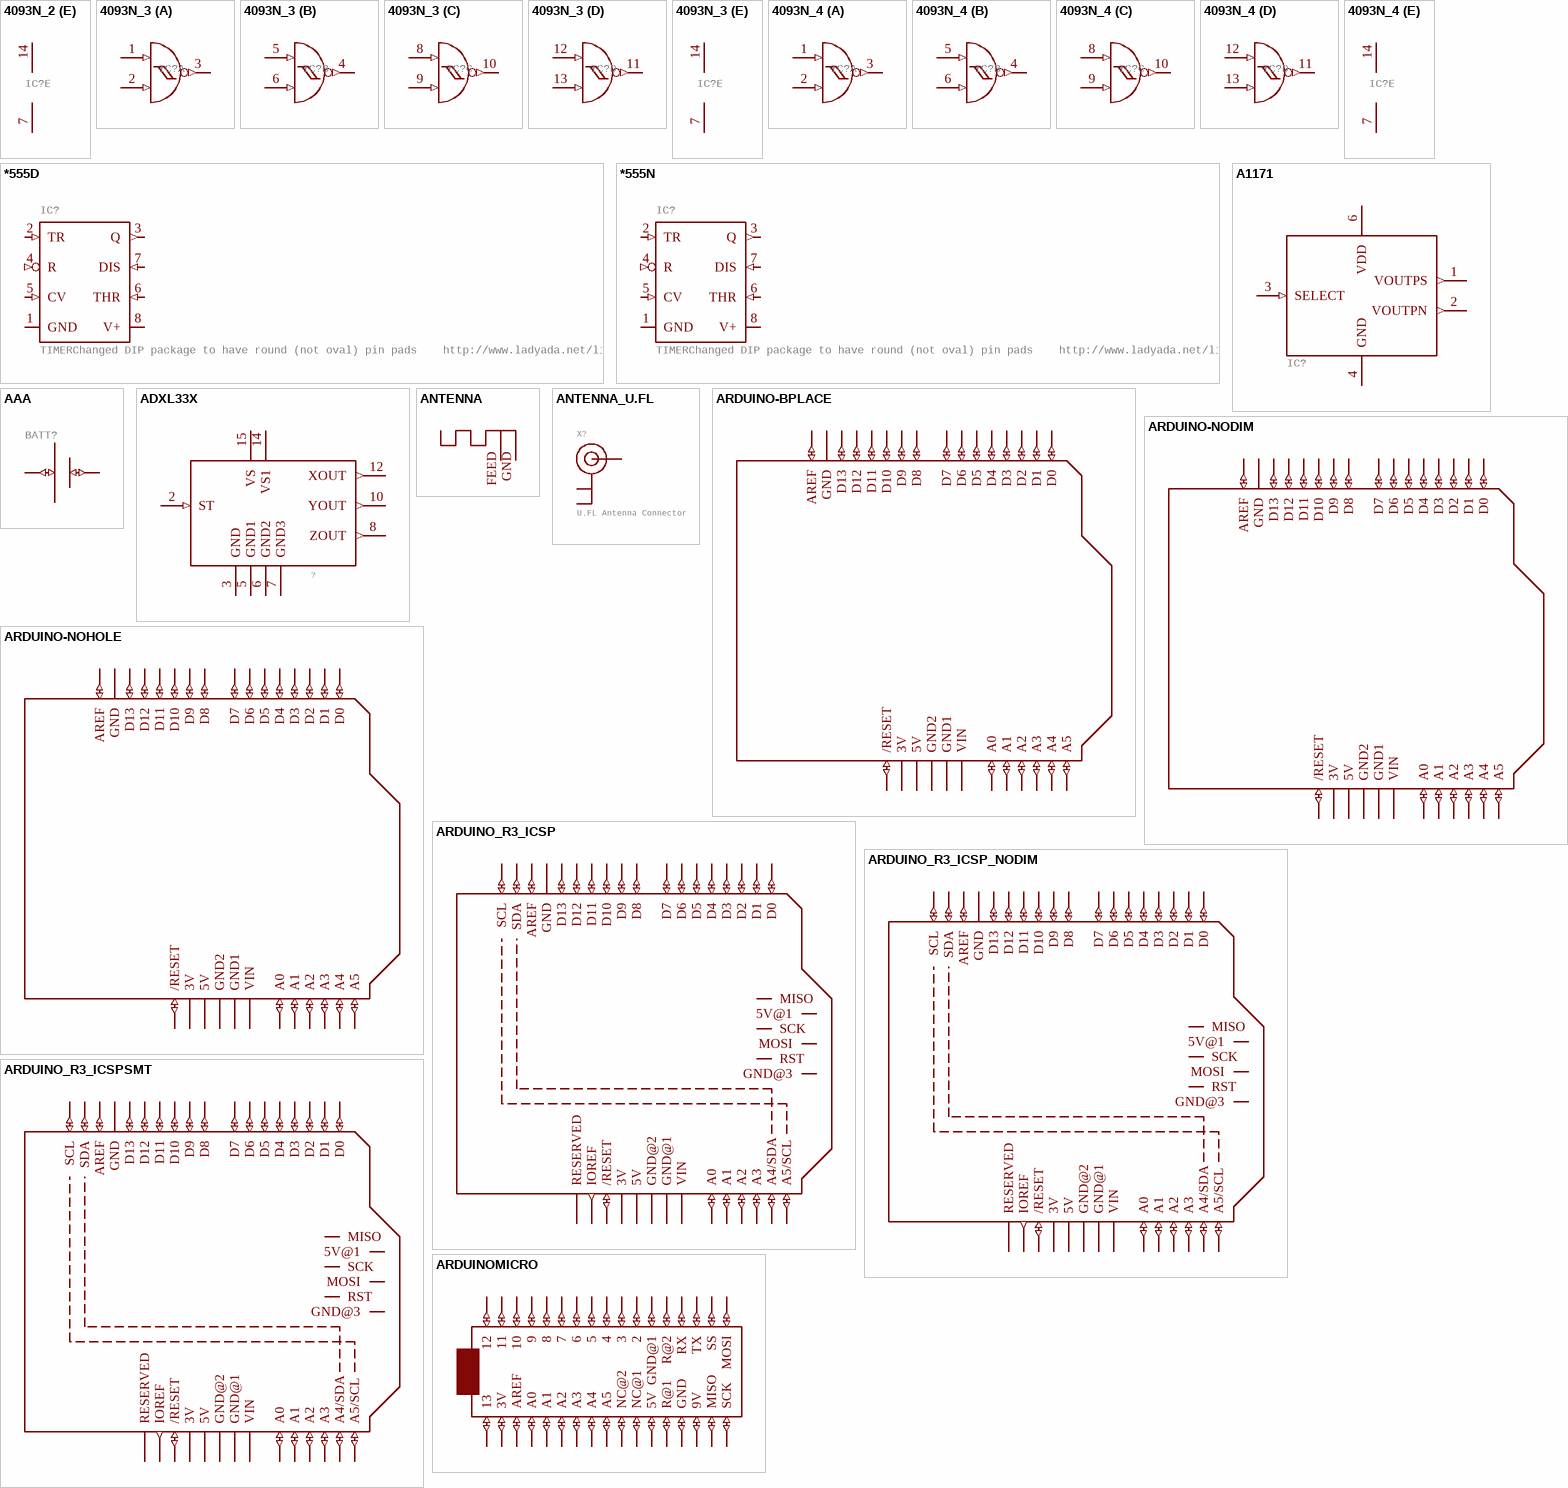
[diagram p164: symbols 4093N_2 to ARDUINOMICRO]

## 4093N_2
designator IC?, comment Quad 2-input NAND schmitt trigger  (value not drawn)
GateName_1: A; SymbolName_1: 4093; GateName_2: B; GateName_3: C; GateName_4: D; GateName_5: P; SymbolName_5: PWRN-1; DeviceName: N; SymbolName_2: 4093; SymbolName_3: 4093; SymbolName_4: 4093; LibraryName: adafruit; DeviceSetName: 4093; Package: DIL14
footprint DIL14
part A pins: 1 I0 (in), 2 I1 (in), 3 O (out)
part B pins: 4 O (out), 5 I0 (in), 6 I1 (in)
part C pins: 8 I0 (in), 9 I1 (in), 10 O (out)
part D pins: 11 O (out), 12 I0 (in), 13 I1 (in)
part E pins: 7 VSS (power), 14 VDD (power)

## 4093N_3
designator IC?, comment Quad 2-input NAND schmitt trigger  (value not drawn)
GateName_1: A; SymbolName_1: 4093; GateName_2: B; GateName_3: C; GateName_4: D; GateName_5: P; SymbolName_5: PWRN-1; DeviceName: N; SymbolName_2: 4093; SymbolName_3: 4093; SymbolName_4: 4093; LibraryName: adafruit; DeviceSetName: 4093; Package: DIL14
footprint DIL14
part A pins: 1 I0 (in), 2 I1 (in), 3 O (out)
part B pins: 4 O (out), 5 I0 (in), 6 I1 (in)
part C pins: 8 I0 (in), 9 I1 (in), 10 O (out)
part D pins: 11 O (out), 12 I0 (in), 13 I1 (in)
part E pins: 7 VSS (power), 14 VDD (power)

## 4093N_4
designator IC?, comment Quad 2-input NAND schmitt trigger  (value not drawn)
GateName_1: A; SymbolName_1: 4093; GateName_2: B; GateName_3: C; GateName_4: D; GateName_5: P; SymbolName_5: PWRN-1; DeviceName: N; SymbolName_2: 4093; SymbolName_3: 4093; SymbolName_4: 4093; LibraryName: adafruit; DeviceSetName: 4093; Package: DIL14
footprint DIL14
part A pins: 1 I0 (in), 2 I1 (in), 3 O (out)
part B pins: 4 O (out), 5 I0 (in), 6 I1 (in)
part C pins: 8 I0 (in), 9 I1 (in), 10 O (out)
part D pins: 11 O (out), 12 I0 (in), 13 I1 (in)
part E pins: 7 VSS (power), 14 VDD (power)

## *555D
designator IC?, comment TIMERChanged DIP package to have round (not oval) pin pads    http://www.ladyada.net/library/pcb/eaglelibrary.html
GateName_1: A; SymbolName_1: 555; DeviceName: D; DeviceSetName: *555; LibraryName: adafruit; Package: SO08
footprint SO08
pins: 1 GND (power), 2 TR (in), 3 Q (out), 4 R (in), 5 CV (in), 6 THR (in), 7 DIS (in), 8 V+ (power)

## *555N
designator IC?, comment TIMERChanged DIP package to have round (not oval) pin pads    http://www.ladyada.net/library/pcb/eaglelibrary.html
GateName_1: A; SymbolName_1: 555; DeviceName: N; DeviceSetName: *555; LibraryName: adafruit; Package: DIL08-ROUND
footprint DIL08-ROUND
pins: 1 GND (power), 2 TR (in), 3 Q (out), 4 R (in), 5 CV (in), 6 THR (in), 7 DIS (in), 8 V+ (power)

## A1171
designator IC?, comment A1171 Allegro push-pull hall effect sensor  (value not drawn)
GateName_1: G$1; SymbolName_1: A1171; LibraryName: adafruit; DeviceSetName: A1171; Package: DFN-6
footprint DFN-6
pins: 1 VOUTPS (out), 2 VOUTPN (out), 3 SELECT (in), 4 GND (power), 6 VDD (power)